# Altium schematic symbol library MCU_ST_STM32H5.SchLib: 73 symbols (part 1 of 3)
Pins are listed as number, name and electrical type; pins without a type are passive.

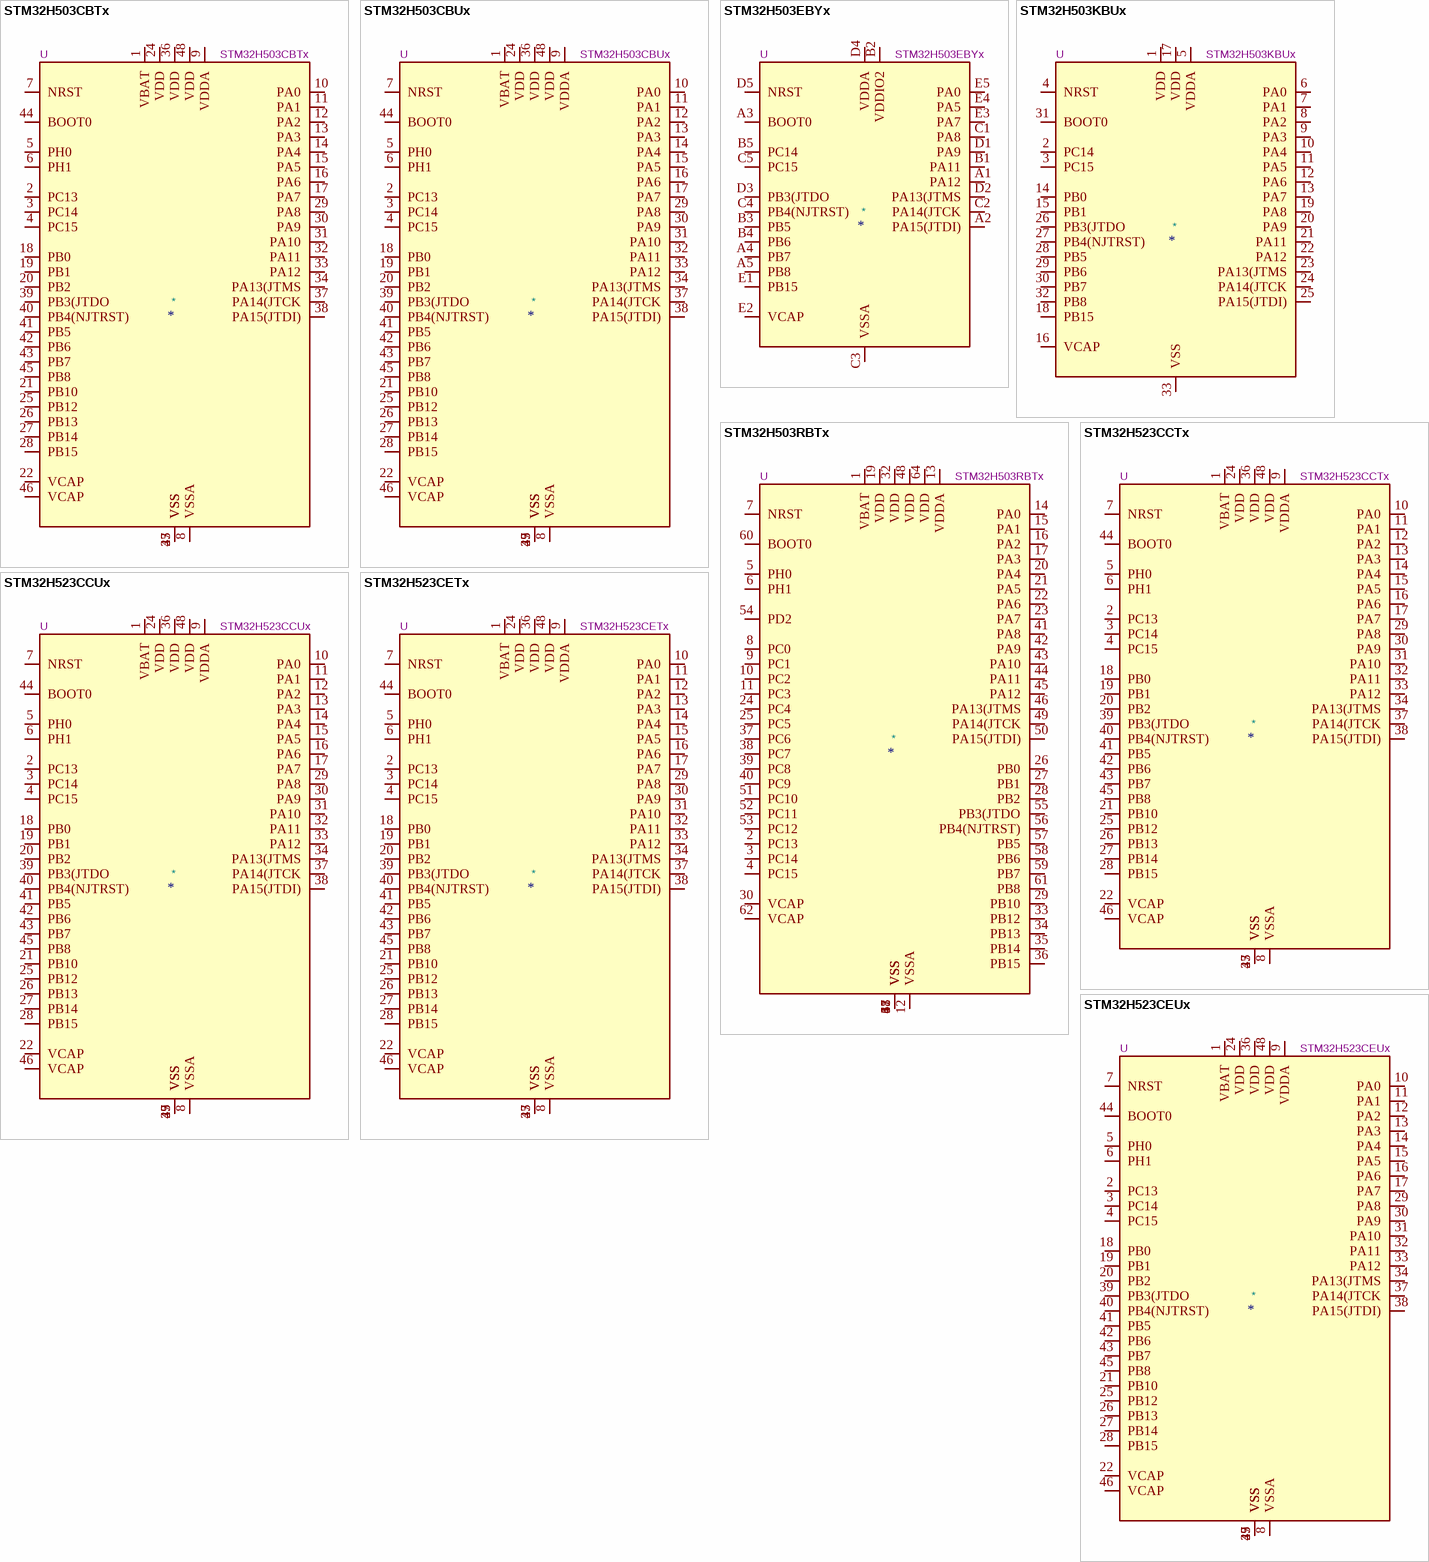
[diagram p0: symbols STM32H503CBTx to STM32H523CEUx]

## STM32H503CBTx
designator *  value STM32H503CBTx  Reference: U
STMicroelectronics Arm Cortex-M33 MCU, 128KB flash, 32KB RAM, 250 MHz, 35 GPIO, LQFP48; ki_keywords: Arm Cortex-M33 STM32H5 STM32H503; ki_fp_filters: LQFP*7x7mm*P0.5mm*; Footprint: Package_QFP:LQFP-48_7x7mm_P0.5mm; Datasheet: https://www.st.com/resource/en/datasheet/stm32h503cb.pdf; Description_: STMicroelectronics Arm Cortex-M33 MCU, 128KB flash, 32KB RAM, 250 MHz, 35 GPIO, LQFP48
pins: 1 VBAT, 2 PC13, 3 PC14, 4 PC15, 5 PH0, 6 PH1, 7 NRST, 8 VSSA, 9 VDDA, 10 PA0, 11 PA1, 12 PA2, 13 PA3, 14 PA4, 15 PA5, 16 PA6, 17 PA7, 18 PB0, 19 PB1, 20 PB2, 21 PB10, 22 VCAP, 23 VSS, 24 VDD, 25 PB12, 26 PB13, 27 PB14, 28 PB15, 29 PA8, 30 PA9, 31 PA10, 32 PA11, 33 PA12, 34 PA13(JTMS, 35 VSS, 36 VDD, 37 PA14(JTCK, 38 PA15(JTDI), 39 PB3(JTDO, 40 PB4(NJTRST), 41 PB5, 42 PB6, 43 PB7, 44 BOOT0, 45 PB8, 46 VCAP, 47 VSS, 48 VDD

## STM32H503CBUx
designator *  value STM32H503CBUx  Reference: U
STMicroelectronics Arm Cortex-M33 MCU, 128KB flash, 32KB RAM, 250 MHz, 35 GPIO, UFQFPN48; ki_keywords: Arm Cortex-M33 STM32H5 STM32H503; ki_fp_filters: QFN*1EP*7x7mm*P0.5mm*; Footprint: Package_DFN_QFN:QFN-48-1EP_7x7mm_P0.5mm_EP5.6x5.6mm; Datasheet: https://www.st.com/resource/en/datasheet/stm32h503cb.pdf; Description_: STMicroelectronics Arm Cortex-M33 MCU, 128KB flash, 32KB RAM, 250 MHz, 35 GPIO, UFQFPN48
pins: 1 VBAT, 2 PC13, 3 PC14, 4 PC15, 5 PH0, 6 PH1, 7 NRST, 8 VSSA, 9 VDDA, 10 PA0, 11 PA1, 12 PA2, 13 PA3, 14 PA4, 15 PA5, 16 PA6, 17 PA7, 18 PB0, 19 PB1, 20 PB2, 21 PB10, 22 VCAP, 23 VSS, 24 VDD, 25 PB12, 26 PB13, 27 PB14, 28 PB15, 29 PA8, 30 PA9, 31 PA10, 32 PA11, 33 PA12, 34 PA13(JTMS, 35 VSS, 36 VDD, 37 PA14(JTCK, 38 PA15(JTDI), 39 PB3(JTDO, 40 PB4(NJTRST), 41 PB5, 42 PB6, 43 PB7, 44 BOOT0, 45 PB8, 46 VCAP, 47 VSS, 48 VDD, 49 VSS

## STM32H503EBYx
designator *  value STM32H503EBYx  Reference: U
STMicroelectronics Arm Cortex-M33 MCU, 128KB flash, 32KB RAM, 250 MHz, 19 GPIO, WLCSP25; ki_keywords: Arm Cortex-M33 STM32H5 STM32H503; ki_fp_filters: ST*WLCSP*2.33x2.24mm*Layout5x5*P0.4mm*; Footprint: Package_CSP:ST_WLCSP-25_2.33x2.24mm_Layout5x5_P0.4mm; Datasheet: https://www.st.com/resource/en/datasheet/stm32h503eb.pdf; Description_: STMicroelectronics Arm Cortex-M33 MCU, 128KB flash, 32KB RAM, 250 MHz, 19 GPIO, WLCSP25
pins: A1 PA12, A2 PA15(JTDI), A3 BOOT0, A4 PB7, A5 PB8, B1 PA11, B2 VDDIO2, B3 PB5, B4 PB6, B5 PC14, C1 PA8, C2 PA14(JTCK, C3 VSSA, C4 PB4(NJTRST), C5 PC15, D1 PA9, D2 PA13(JTMS, D3 PB3(JTDO, D4 VDDA, D5 NRST, E1 PB15, E2 VCAP, E3 PA7, E4 PA5, E5 PA0

## STM32H503KBUx
designator *  value STM32H503KBUx  Reference: U
STMicroelectronics Arm Cortex-M33 MCU, 128KB flash, 32KB RAM, 250 MHz, 26 GPIO, UFQFPN32; ki_keywords: Arm Cortex-M33 STM32H5 STM32H503; ki_fp_filters: QFN*1EP*5x5mm*P0.5mm*; Footprint: Package_DFN_QFN:QFN-32-1EP_5x5mm_P0.5mm_EP3.45x3.45mm; Datasheet: https://www.st.com/resource/en/datasheet/stm32h503kb.pdf; Description_: STMicroelectronics Arm Cortex-M33 MCU, 128KB flash, 32KB RAM, 250 MHz, 26 GPIO, UFQFPN32
pins: 1 VDD, 2 PC14, 3 PC15, 4 NRST, 5 VDDA, 6 PA0, 7 PA1, 8 PA2, 9 PA3, 10 PA4, 11 PA5, 12 PA6, 13 PA7, 14 PB0, 15 PB1, 16 VCAP, 17 VDD, 18 PB15, 19 PA8, 20 PA9, 21 PA11, 22 PA12, 23 PA13(JTMS, 24 PA14(JTCK, 25 PA15(JTDI), 26 PB3(JTDO, 27 PB4(NJTRST), 28 PB5, 29 PB6, 30 PB7, 31 BOOT0, 32 PB8, 33 VSS

## STM32H503RBTx
designator *  value STM32H503RBTx  Reference: U
STMicroelectronics Arm Cortex-M33 MCU, 128KB flash, 32KB RAM, 250 MHz, 49 GPIO, LQFP64; ki_keywords: Arm Cortex-M33 STM32H5 STM32H503; ki_fp_filters: LQFP*10x10mm*P0.5mm*; Footprint: Package_QFP:LQFP-64_10x10mm_P0.5mm; Datasheet: https://www.st.com/resource/en/datasheet/stm32h503rb.pdf; Description_: STMicroelectronics Arm Cortex-M33 MCU, 128KB flash, 32KB RAM, 250 MHz, 49 GPIO, LQFP64
pins: 1 VBAT, 2 PC13, 3 PC14, 4 PC15, 5 PH0, 6 PH1, 7 NRST, 8 PC0, 9 PC1, 10 PC2, 11 PC3, 12 VSSA, 13 VDDA, 14 PA0, 15 PA1, 16 PA2, 17 PA3, 18 VSS, 19 VDD, 20 PA4, 21 PA5, 22 PA6, 23 PA7, 24 PC4, 25 PC5, 26 PB0, 27 PB1, 28 PB2, 29 PB10, 30 VCAP, 31 VSS, 32 VDD, 33 PB12, 34 PB13, 35 PB14, 36 PB15, 37 PC6, 38 PC7, 39 PC8, 40 PC9, 41 PA8, 42 PA9, 43 PA10, 44 PA11, 45 PA12, 46 PA13(JTMS, 47 VSS, 48 VDD, 49 PA14(JTCK, 50 PA15(JTDI), 51 PC10, 52 PC11, 53 PC12, 54 PD2, 55 PB3(JTDO, 56 PB4(NJTRST), 57 PB5, 58 PB6, 59 PB7, 60 BOOT0, 61 PB8, 62 VCAP, 63 VSS, 64 VDD

## STM32H523CCTx
designator *  value STM32H523CCTx  Reference: U
STMicroelectronics Arm Cortex-M33 MCU, 256KB flash, 272KB RAM, 35 GPIO, LQFP48; ki_keywords: Arm Cortex-M33 STM32H5 STM32H5x3; ki_fp_filters: LQFP*7x7mm*P0.5mm*; Footprint: Package_QFP:LQFP-48_7x7mm_P0.5mm; Datasheet: https://www.st.com/resource/en/datasheet/stm32h523cc.pdf; Description_: STMicroelectronics Arm Cortex-M33 MCU, 256KB flash, 272KB RAM, 35 GPIO, LQFP48
pins: 1 VBAT, 2 PC13, 3 PC14, 4 PC15, 5 PH0, 6 PH1, 7 NRST, 8 VSSA, 9 VDDA, 10 PA0, 11 PA1, 12 PA2, 13 PA3, 14 PA4, 15 PA5, 16 PA6, 17 PA7, 18 PB0, 19 PB1, 20 PB2, 21 PB10, 22 VCAP, 23 VSS, 24 VDD, 25 PB12, 26 PB13, 27 PB14, 28 PB15, 29 PA8, 30 PA9, 31 PA10, 32 PA11, 33 PA12, 34 PA13(JTMS, 35 VSS, 36 VDD, 37 PA14(JTCK, 38 PA15(JTDI), 39 PB3(JTDO, 40 PB4(NJTRST), 41 PB5, 42 PB6, 43 PB7, 44 BOOT0, 45 PB8, 46 VCAP, 47 VSS, 48 VDD

## STM32H523CCUx
designator *  value STM32H523CCUx  Reference: U
STMicroelectronics Arm Cortex-M33 MCU, 256KB flash, 272KB RAM, 35 GPIO, UFQFPN48; ki_keywords: Arm Cortex-M33 STM32H5 STM32H5x3; ki_fp_filters: QFN*1EP*7x7mm*P0.5mm*; Footprint: Package_DFN_QFN:QFN-48-1EP_7x7mm_P0.5mm_EP5.6x5.6mm; Datasheet: https://www.st.com/resource/en/datasheet/stm32h523cc.pdf; Description_: STMicroelectronics Arm Cortex-M33 MCU, 256KB flash, 272KB RAM, 35 GPIO, UFQFPN48
pins: 1 VBAT, 2 PC13, 3 PC14, 4 PC15, 5 PH0, 6 PH1, 7 NRST, 8 VSSA, 9 VDDA, 10 PA0, 11 PA1, 12 PA2, 13 PA3, 14 PA4, 15 PA5, 16 PA6, 17 PA7, 18 PB0, 19 PB1, 20 PB2, 21 PB10, 22 VCAP, 23 VSS, 24 VDD, 25 PB12, 26 PB13, 27 PB14, 28 PB15, 29 PA8, 30 PA9, 31 PA10, 32 PA11, 33 PA12, 34 PA13(JTMS, 35 VSS, 36 VDD, 37 PA14(JTCK, 38 PA15(JTDI), 39 PB3(JTDO, 40 PB4(NJTRST), 41 PB5, 42 PB6, 43 PB7, 44 BOOT0, 45 PB8, 46 VCAP, 47 VSS, 48 VDD, 49 VSS

## STM32H523CETx
designator *  value STM32H523CETx  Reference: U
STMicroelectronics Arm Cortex-M33 MCU, 512KB flash, 272KB RAM, 35 GPIO, LQFP48; ki_keywords: Arm Cortex-M33 STM32H5 STM32H5x3; ki_fp_filters: LQFP*7x7mm*P0.5mm*; Footprint: Package_QFP:LQFP-48_7x7mm_P0.5mm; Datasheet: https://www.st.com/resource/en/datasheet/stm32h523ce.pdf; Description_: STMicroelectronics Arm Cortex-M33 MCU, 512KB flash, 272KB RAM, 35 GPIO, LQFP48
pins: 1 VBAT, 2 PC13, 3 PC14, 4 PC15, 5 PH0, 6 PH1, 7 NRST, 8 VSSA, 9 VDDA, 10 PA0, 11 PA1, 12 PA2, 13 PA3, 14 PA4, 15 PA5, 16 PA6, 17 PA7, 18 PB0, 19 PB1, 20 PB2, 21 PB10, 22 VCAP, 23 VSS, 24 VDD, 25 PB12, 26 PB13, 27 PB14, 28 PB15, 29 PA8, 30 PA9, 31 PA10, 32 PA11, 33 PA12, 34 PA13(JTMS, 35 VSS, 36 VDD, 37 PA14(JTCK, 38 PA15(JTDI), 39 PB3(JTDO, 40 PB4(NJTRST), 41 PB5, 42 PB6, 43 PB7, 44 BOOT0, 45 PB8, 46 VCAP, 47 VSS, 48 VDD

## STM32H523CEUx
designator *  value STM32H523CEUx  Reference: U
STMicroelectronics Arm Cortex-M33 MCU, 512KB flash, 272KB RAM, 35 GPIO, UFQFPN48; ki_keywords: Arm Cortex-M33 STM32H5 STM32H5x3; ki_fp_filters: QFN*1EP*7x7mm*P0.5mm*; Footprint: Package_DFN_QFN:QFN-48-1EP_7x7mm_P0.5mm_EP5.6x5.6mm; Datasheet: https://www.st.com/resource/en/datasheet/stm32h523ce.pdf; Description_: STMicroelectronics Arm Cortex-M33 MCU, 512KB flash, 272KB RAM, 35 GPIO, UFQFPN48
pins: 1 VBAT, 2 PC13, 3 PC14, 4 PC15, 5 PH0, 6 PH1, 7 NRST, 8 VSSA, 9 VDDA, 10 PA0, 11 PA1, 12 PA2, 13 PA3, 14 PA4, 15 PA5, 16 PA6, 17 PA7, 18 PB0, 19 PB1, 20 PB2, 21 PB10, 22 VCAP, 23 VSS, 24 VDD, 25 PB12, 26 PB13, 27 PB14, 28 PB15, 29 PA8, 30 PA9, 31 PA10, 32 PA11, 33 PA12, 34 PA13(JTMS, 35 VSS, 36 VDD, 37 PA14(JTCK, 38 PA15(JTDI), 39 PB3(JTDO, 40 PB4(NJTRST), 41 PB5, 42 PB6, 43 PB7, 44 BOOT0, 45 PB8, 46 VCAP, 47 VSS, 48 VDD, 49 VSS

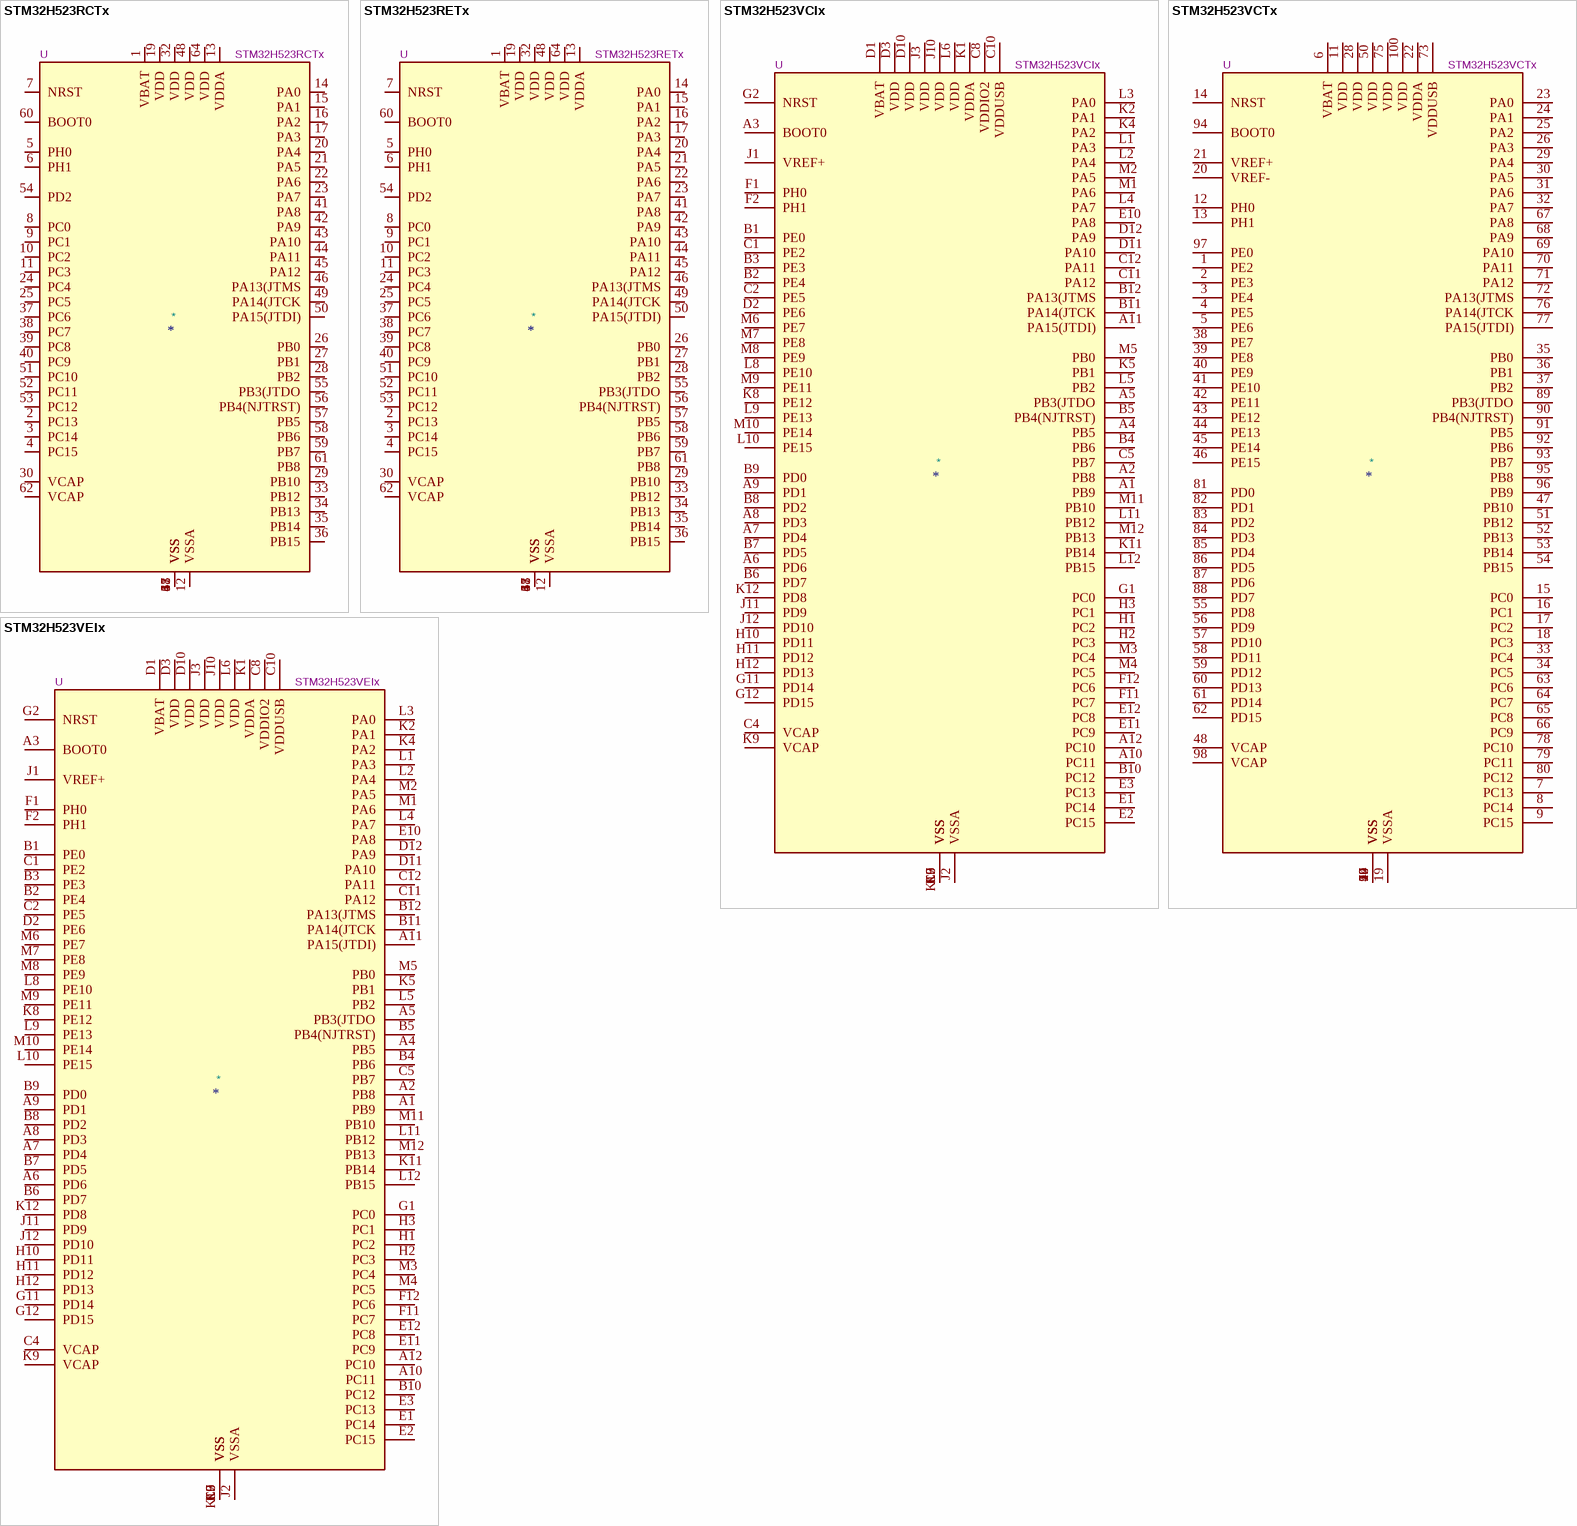
[diagram p1: symbols STM32H523RCTx to STM32H523VEIx]

## STM32H523RCTx
designator *  value STM32H523RCTx  Reference: U
STMicroelectronics Arm Cortex-M33 MCU, 256KB flash, 272KB RAM, 49 GPIO, LQFP64; ki_keywords: Arm Cortex-M33 STM32H5 STM32H5x3; ki_fp_filters: LQFP*10x10mm*P0.5mm*; Footprint: Package_QFP:LQFP-64_10x10mm_P0.5mm; Datasheet: https://www.st.com/resource/en/datasheet/stm32h523rc.pdf; Description_: STMicroelectronics Arm Cortex-M33 MCU, 256KB flash, 272KB RAM, 49 GPIO, LQFP64
pins: 1 VBAT, 2 PC13, 3 PC14, 4 PC15, 5 PH0, 6 PH1, 7 NRST, 8 PC0, 9 PC1, 10 PC2, 11 PC3, 12 VSSA, 13 VDDA, 14 PA0, 15 PA1, 16 PA2, 17 PA3, 18 VSS, 19 VDD, 20 PA4, 21 PA5, 22 PA6, 23 PA7, 24 PC4, 25 PC5, 26 PB0, 27 PB1, 28 PB2, 29 PB10, 30 VCAP, 31 VSS, 32 VDD, 33 PB12, 34 PB13, 35 PB14, 36 PB15, 37 PC6, 38 PC7, 39 PC8, 40 PC9, 41 PA8, 42 PA9, 43 PA10, 44 PA11, 45 PA12, 46 PA13(JTMS, 47 VSS, 48 VDD, 49 PA14(JTCK, 50 PA15(JTDI), 51 PC10, 52 PC11, 53 PC12, 54 PD2, 55 PB3(JTDO, 56 PB4(NJTRST), 57 PB5, 58 PB6, 59 PB7, 60 BOOT0, 61 PB8, 62 VCAP, 63 VSS, 64 VDD

## STM32H523RETx
designator *  value STM32H523RETx  Reference: U
STMicroelectronics Arm Cortex-M33 MCU, 512KB flash, 272KB RAM, 49 GPIO, LQFP64; ki_keywords: Arm Cortex-M33 STM32H5 STM32H5x3; ki_fp_filters: LQFP*10x10mm*P0.5mm*; Footprint: Package_QFP:LQFP-64_10x10mm_P0.5mm; Datasheet: https://www.st.com/resource/en/datasheet/stm32h523re.pdf; Description_: STMicroelectronics Arm Cortex-M33 MCU, 512KB flash, 272KB RAM, 49 GPIO, LQFP64
pins: 1 VBAT, 2 PC13, 3 PC14, 4 PC15, 5 PH0, 6 PH1, 7 NRST, 8 PC0, 9 PC1, 10 PC2, 11 PC3, 12 VSSA, 13 VDDA, 14 PA0, 15 PA1, 16 PA2, 17 PA3, 18 VSS, 19 VDD, 20 PA4, 21 PA5, 22 PA6, 23 PA7, 24 PC4, 25 PC5, 26 PB0, 27 PB1, 28 PB2, 29 PB10, 30 VCAP, 31 VSS, 32 VDD, 33 PB12, 34 PB13, 35 PB14, 36 PB15, 37 PC6, 38 PC7, 39 PC8, 40 PC9, 41 PA8, 42 PA9, 43 PA10, 44 PA11, 45 PA12, 46 PA13(JTMS, 47 VSS, 48 VDD, 49 PA14(JTCK, 50 PA15(JTDI), 51 PC10, 52 PC11, 53 PC12, 54 PD2, 55 PB3(JTDO, 56 PB4(NJTRST), 57 PB5, 58 PB6, 59 PB7, 60 BOOT0, 61 PB8, 62 VCAP, 63 VSS, 64 VDD

## STM32H523VCIx
designator *  value STM32H523VCIx  Reference: U
STMicroelectronics Arm Cortex-M33 MCU, 256KB flash, 272KB RAM, 80 GPIO, UFBGA100; ki_keywords: Arm Cortex-M33 STM32H5 STM32H5x3; ki_fp_filters: UFBGA*7x7mm*Layout12x12*P0.5mm*; Footprint: Package_BGA:UFBGA-100_7x7mm_Layout12x12_P0.5mm; Datasheet: https://www.st.com/resource/en/datasheet/stm32h523vc.pdf; Description_: STMicroelectronics Arm Cortex-M33 MCU, 256KB flash, 272KB RAM, 80 GPIO, UFBGA100
pins: A1 PB9, A2 PB8, A3 BOOT0, A4 PB5, A5 PB3(JTDO, A6 PD6, A7 PD4, A8 PD3, A9 PD1, A10 PC11, A11 PA15(JTDI), A12 PC10, B1 PE0, B2 PE4, B3 PE3, B4 PB6, B5 PB4(NJTRST), B6 PD7, B7 PD5, B8 PD2, B9 PD0, B10 PC12, B11 PA14(JTCK, B12 PA13(JTMS, C1 PE2, C2 PE5, C3 VSS, C4 VCAP, C5 PB7, C8 VDDIO2, C9 VSS, C10 VDDUSB, C11 PA12, C12 PA11, D1 VBAT, D2 PE6, D3 VDD, D10 VDD, D11 PA10, D12 PA9, E1 PC14, E2 PC15, E3 PC13, E10 PA8, E11 PC9, E12 PC8, F1 PH0, F2 PH1, F11 PC7, F12 PC6, G1 PC0, G2 NRST, G11 PD14, G12 PD15, H1 PC2, H2 PC3, H3 PC1, H10 PD11, H11 PD12, H12 PD13, J1 VREF+, J2 VSSA, J3 VDD, J10 VDD, J11 PD9, J12 PD10, K1 VDDA, K2 PA1, K3 VSS, K4 PA2, K5 PB1, K8 PE12, K9 VCAP, K10 VSS, K11 PB14, K12 PD8, L1 PA3, L2 PA4, L3 PA0, L4 PA7, L5 PB2, L6 VDD, L7 VSS, L8 PE10, L9 PE13, L10 PE15, L11 PB12, L12 PB15, M1 PA6, M2 PA5, M3 PC4, M4 PC5, M5 PB0, M6 PE7, M7 PE8, M8 PE9, M9 PE11, M10 PE14, M11 PB10, M12 PB13

## STM32H523VCTx
designator *  value STM32H523VCTx  Reference: U
STMicroelectronics Arm Cortex-M33 MCU, 256KB flash, 272KB RAM, 80 GPIO, LQFP100; ki_keywords: Arm Cortex-M33 STM32H5 STM32H5x3; ki_fp_filters: LQFP*14x14mm*P0.5mm*; Footprint: Package_QFP:LQFP-100_14x14mm_P0.5mm; Datasheet: https://www.st.com/resource/en/datasheet/stm32h523vc.pdf; Description_: STMicroelectronics Arm Cortex-M33 MCU, 256KB flash, 272KB RAM, 80 GPIO, LQFP100
pins: 1 PE2, 2 PE3, 3 PE4, 4 PE5, 5 PE6, 6 VBAT, 7 PC13, 8 PC14, 9 PC15, 10 VSS, 11 VDD, 12 PH0, 13 PH1, 14 NRST, 15 PC0, 16 PC1, 17 PC2, 18 PC3, 19 VSSA, 20 VREF-, 21 VREF+, 22 VDDA, 23 PA0, 24 PA1, 25 PA2, 26 PA3, 27 VSS, 28 VDD, 29 PA4, 30 PA5, 31 PA6, 32 PA7, 33 PC4, 34 PC5, 35 PB0, 36 PB1, 37 PB2, 38 PE7, 39 PE8, 40 PE9, 41 PE10, 42 PE11, 43 PE12, 44 PE13, 45 PE14, 46 PE15, 47 PB10, 48 VCAP, 49 VSS, 50 VDD, 51 PB12, 52 PB13, 53 PB14, 54 PB15, 55 PD8, 56 PD9, 57 PD10, 58 PD11, 59 PD12, 60 PD13, 61 PD14, 62 PD15, 63 PC6, 64 PC7, 65 PC8, 66 PC9, 67 PA8, 68 PA9, 69 PA10, 70 PA11, 71 PA12, 72 PA13(JTMS, 73 VDDUSB, 74 VSS, 75 VDD, 76 PA14(JTCK, 77 PA15(JTDI), 78 PC10, 79 PC11, 80 PC12, 81 PD0, 82 PD1, 83 PD2, 84 PD3, 85 PD4, 86 PD5, 87 PD6, 88 PD7, 89 PB3(JTDO, 90 PB4(NJTRST), 91 PB5, 92 PB6, 93 PB7, 94 BOOT0, 95 PB8, 96 PB9, 97 PE0, 98 VCAP, 99 VSS, 100 VDD

## STM32H523VEIx
designator *  value STM32H523VEIx  Reference: U
STMicroelectronics Arm Cortex-M33 MCU, 512KB flash, 272KB RAM, 80 GPIO, UFBGA100; ki_keywords: Arm Cortex-M33 STM32H5 STM32H5x3; ki_fp_filters: UFBGA*7x7mm*Layout12x12*P0.5mm*; Footprint: Package_BGA:UFBGA-100_7x7mm_Layout12x12_P0.5mm; Datasheet: https://www.st.com/resource/en/datasheet/stm32h523ve.pdf; Description_: STMicroelectronics Arm Cortex-M33 MCU, 512KB flash, 272KB RAM, 80 GPIO, UFBGA100
pins: A1 PB9, A2 PB8, A3 BOOT0, A4 PB5, A5 PB3(JTDO, A6 PD6, A7 PD4, A8 PD3, A9 PD1, A10 PC11, A11 PA15(JTDI), A12 PC10, B1 PE0, B2 PE4, B3 PE3, B4 PB6, B5 PB4(NJTRST), B6 PD7, B7 PD5, B8 PD2, B9 PD0, B10 PC12, B11 PA14(JTCK, B12 PA13(JTMS, C1 PE2, C2 PE5, C3 VSS, C4 VCAP, C5 PB7, C8 VDDIO2, C9 VSS, C10 VDDUSB, C11 PA12, C12 PA11, D1 VBAT, D2 PE6, D3 VDD, D10 VDD, D11 PA10, D12 PA9, E1 PC14, E2 PC15, E3 PC13, E10 PA8, E11 PC9, E12 PC8, F1 PH0, F2 PH1, F11 PC7, F12 PC6, G1 PC0, G2 NRST, G11 PD14, G12 PD15, H1 PC2, H2 PC3, H3 PC1, H10 PD11, H11 PD12, H12 PD13, J1 VREF+, J2 VSSA, J3 VDD, J10 VDD, J11 PD9, J12 PD10, K1 VDDA, K2 PA1, K3 VSS, K4 PA2, K5 PB1, K8 PE12, K9 VCAP, K10 VSS, K11 PB14, K12 PD8, L1 PA3, L2 PA4, L3 PA0, L4 PA7, L5 PB2, L6 VDD, L7 VSS, L8 PE10, L9 PE13, L10 PE15, L11 PB12, L12 PB15, M1 PA6, M2 PA5, M3 PC4, M4 PC5, M5 PB0, M6 PE7, M7 PE8, M8 PE9, M9 PE11, M10 PE14, M11 PB10, M12 PB13

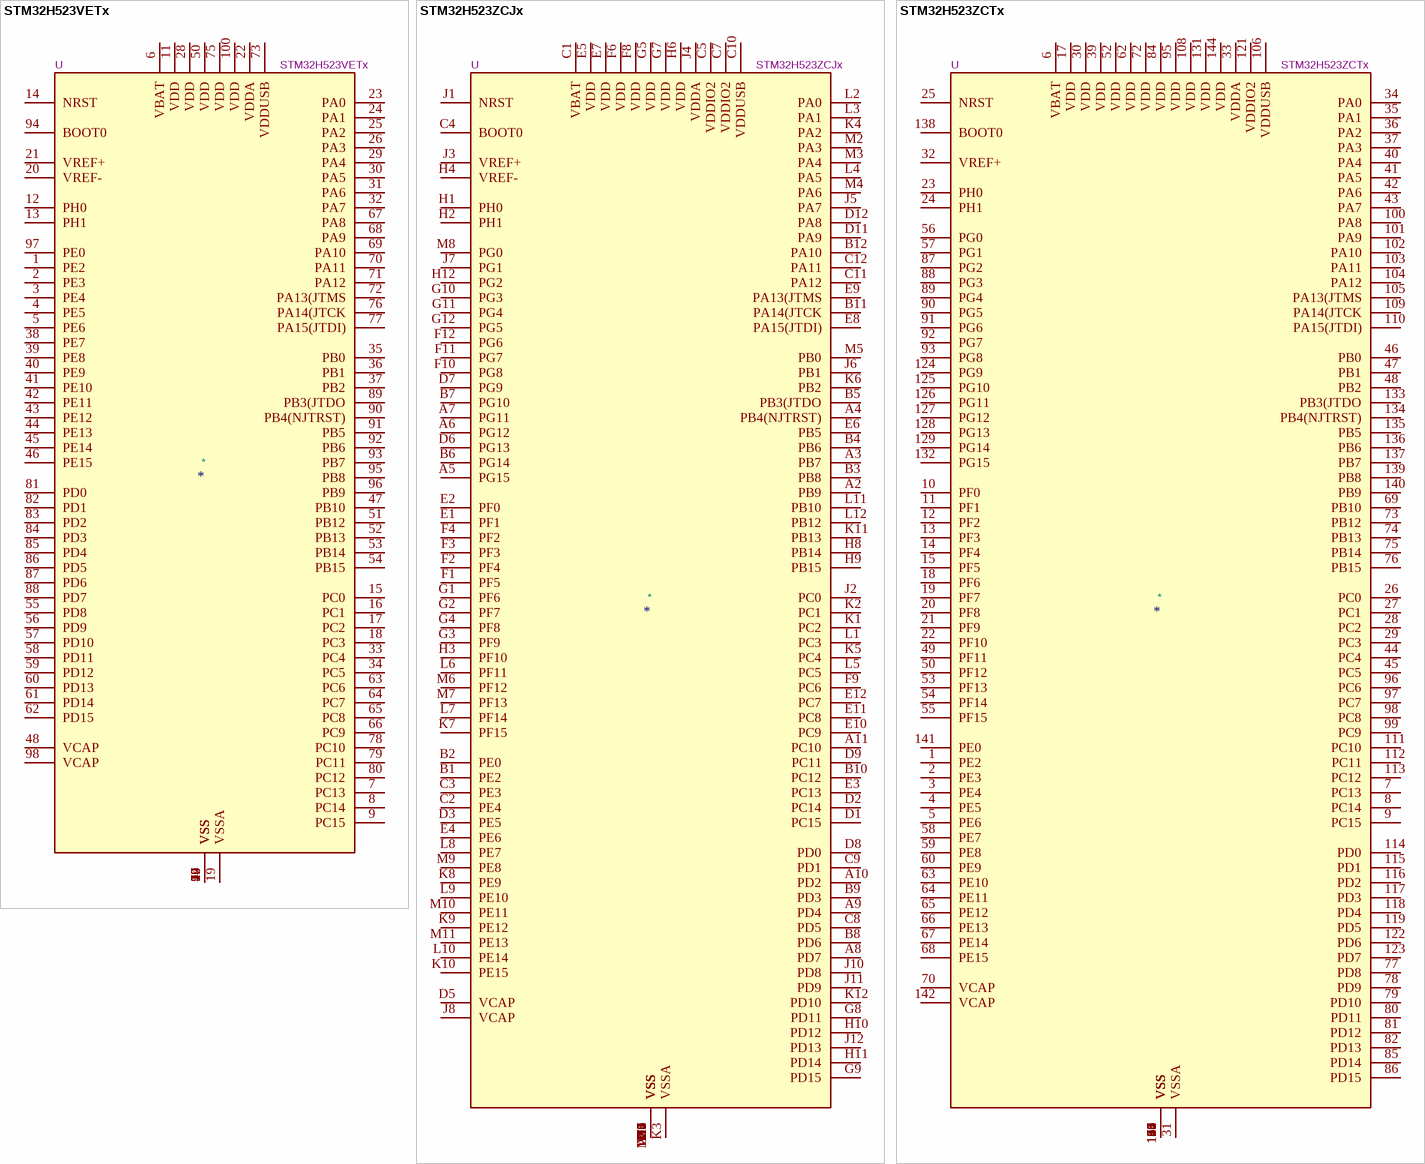
[diagram p2: symbols STM32H523VETx to STM32H523ZCTx]

## STM32H523VETx
designator *  value STM32H523VETx  Reference: U
STMicroelectronics Arm Cortex-M33 MCU, 512KB flash, 272KB RAM, 80 GPIO, LQFP100; ki_keywords: Arm Cortex-M33 STM32H5 STM32H5x3; ki_fp_filters: LQFP*14x14mm*P0.5mm*; Footprint: Package_QFP:LQFP-100_14x14mm_P0.5mm; Datasheet: https://www.st.com/resource/en/datasheet/stm32h523ve.pdf; Description_: STMicroelectronics Arm Cortex-M33 MCU, 512KB flash, 272KB RAM, 80 GPIO, LQFP100
pins: 1 PE2, 2 PE3, 3 PE4, 4 PE5, 5 PE6, 6 VBAT, 7 PC13, 8 PC14, 9 PC15, 10 VSS, 11 VDD, 12 PH0, 13 PH1, 14 NRST, 15 PC0, 16 PC1, 17 PC2, 18 PC3, 19 VSSA, 20 VREF-, 21 VREF+, 22 VDDA, 23 PA0, 24 PA1, 25 PA2, 26 PA3, 27 VSS, 28 VDD, 29 PA4, 30 PA5, 31 PA6, 32 PA7, 33 PC4, 34 PC5, 35 PB0, 36 PB1, 37 PB2, 38 PE7, 39 PE8, 40 PE9, 41 PE10, 42 PE11, 43 PE12, 44 PE13, 45 PE14, 46 PE15, 47 PB10, 48 VCAP, 49 VSS, 50 VDD, 51 PB12, 52 PB13, 53 PB14, 54 PB15, 55 PD8, 56 PD9, 57 PD10, 58 PD11, 59 PD12, 60 PD13, 61 PD14, 62 PD15, 63 PC6, 64 PC7, 65 PC8, 66 PC9, 67 PA8, 68 PA9, 69 PA10, 70 PA11, 71 PA12, 72 PA13(JTMS, 73 VDDUSB, 74 VSS, 75 VDD, 76 PA14(JTCK, 77 PA15(JTDI), 78 PC10, 79 PC11, 80 PC12, 81 PD0, 82 PD1, 83 PD2, 84 PD3, 85 PD4, 86 PD5, 87 PD6, 88 PD7, 89 PB3(JTDO, 90 PB4(NJTRST), 91 PB5, 92 PB6, 93 PB7, 94 BOOT0, 95 PB8, 96 PB9, 97 PE0, 98 VCAP, 99 VSS, 100 VDD

## STM32H523ZCJx
designator *  value STM32H523ZCJx  Reference: U
STMicroelectronics Arm Cortex-M33 MCU, 256KB flash, 272KB RAM, 112 GPIO, UFBGA144; ki_keywords: Arm Cortex-M33 STM32H5 STM32H5x3; ki_fp_filters: UFBGA*10x10mm*Layout12x12*P0.8mm*; Footprint: Package_BGA:UFBGA-144_10x10mm_Layout12x12_P0.8mm; Datasheet: https://www.st.com/resource/en/datasheet/stm32h523zc.pdf; Description_: STMicroelectronics Arm Cortex-M33 MCU, 256KB flash, 272KB RAM, 112 GPIO, UFBGA144
pins: A1 VSS, A2 PB9, A3 PB7, A4 PB4(NJTRST), A5 PG15, A6 PG12, A7 PG11, A8 PD7, A9 PD4, A10 PD2, A11 PC10, A12 VSS, B1 PE2, B2 PE0, B3 PB8, B4 PB6, B5 PB3(JTDO, B6 PG14, B7 PG10, B8 PD6, B9 PD3, B10 PC12, B11 PA14(JTCK, B12 PA10, C1 VBAT, C2 PE4, C3 PE3, C4 BOOT0, C5 VDDIO2, C6 VSS, C7 VDDIO2, C8 PD5, C9 PD1, C10 VDDUSB, C11 PA12, C12 PA11, D1 PC15, D2 PC14, D3 PE5, D4 VSS, D5 VCAP, D6 PG13, D7 PG9, D8 PD0, D9 PC11, D10 VSS, D11 PA9, D12 PA8, E1 PF1, E2 PF0, E3 PC13, E4 PE6, E5 VDD, E6 PB5, E7 VDD, E8 PA15(JTDI), E9 PA13(JTMS, E10 PC9, E11 PC8, E12 PC7, F1 PF5, F2 PF4, F3 PF3, F4 PF2, F5 VSS, F6 VDD, F7 VSS, F8 VDD, F9 PC6, F10 PG8, F11 PG7, F12 PG6, G1 PF6, G2 PF7, G3 PF9, G4 PF8, G5 VDD, G6 VSS, G7 VDD, G8 PD11, G9 PD15, G10 PG3, G11 PG4, G12 PG5, H1 PH0, H2 PH1, H3 PF10, H4 VREF-, H5 VSS, H6 VDD, H7 VSS, H8 PB14, H9 PB15, H10 PD12, H11 PD14, H12 PG2, J1 NRST, J2 PC0, J3 VREF+, J4 VDDA, J5 PA7, J6 PB1, J7 PG1, J8 VCAP, J9 VSS, J10 PD8, J11 PD9, J12 PD13, K1 PC2, K2 PC1, K3 VSSA, K4 PA2, K5 PC4, K6 PB2, K7 PF15, K8 PE9, K9 PE12, K10 PE15, K11 PB13, K12 PD10, L1 PC3, L2 PA0, L3 PA1, L4 PA5, L5 PC5, L6 PF11, L7 PF14, L8 PE7, L9 PE10, L10 PE14, L11 PB10, L12 PB12, M1 VSS, M2 PA3, M3 PA4, M4 PA6, M5 PB0, M6 PF12, M7 PF13, M8 PG0, M9 PE8, M10 PE11, M11 PE13, M12 VSS

## STM32H523ZCTx
designator *  value STM32H523ZCTx  Reference: U
STMicroelectronics Arm Cortex-M33 MCU, 256KB flash, 272KB RAM, 112 GPIO, LQFP144; ki_keywords: Arm Cortex-M33 STM32H5 STM32H5x3; ki_fp_filters: LQFP*20x20mm*P0.5mm*; Footprint: Package_QFP:LQFP-144_20x20mm_P0.5mm; Datasheet: https://www.st.com/resource/en/datasheet/stm32h523zc.pdf; Description_: STMicroelectronics Arm Cortex-M33 MCU, 256KB flash, 272KB RAM, 112 GPIO, LQFP144
pins: 1 PE2, 2 PE3, 3 PE4, 4 PE5, 5 PE6, 6 VBAT, 7 PC13, 8 PC14, 9 PC15, 10 PF0, 11 PF1, 12 PF2, 13 PF3, 14 PF4, 15 PF5, 16 VSS, 17 VDD, 18 PF6, 19 PF7, 20 PF8, 21 PF9, 22 PF10, 23 PH0, 24 PH1, 25 NRST, 26 PC0, 27 PC1, 28 PC2, 29 PC3, 30 VDD, 31 VSSA, 32 VREF+, 33 VDDA, 34 PA0, 35 PA1, 36 PA2, 37 PA3, 38 VSS, 39 VDD, 40 PA4, 41 PA5, 42 PA6, 43 PA7, 44 PC4, 45 PC5, 46 PB0, 47 PB1, 48 PB2, 49 PF11, 50 PF12, 51 VSS, 52 VDD, 53 PF13, 54 PF14, 55 PF15, 56 PG0, 57 PG1, 58 PE7, 59 PE8, 60 PE9, 61 VSS, 62 VDD, 63 PE10, 64 PE11, 65 PE12, 66 PE13, 67 PE14, 68 PE15, 69 PB10, 70 VCAP, 71 VSS, 72 VDD, 73 PB12, 74 PB13, 75 PB14, 76 PB15, 77 PD8, 78 PD9, 79 PD10, 80 PD11, 81 PD12, 82 PD13, 83 VSS, 84 VDD, 85 PD14, 86 PD15, 87 PG2, 88 PG3, 89 PG4, 90 PG5, 91 PG6, 92 PG7, 93 PG8, 94 VSS, 95 VDD, 96 PC6, 97 PC7, 98 PC8, 99 PC9, 100 PA8, 101 PA9, 102 PA10, 103 PA11, 104 PA12, 105 PA13(JTMS, 106 VDDUSB, 107 VSS, 108 VDD, 109 PA14(JTCK, 110 PA15(JTDI), 111 PC10, 112 PC11, 113 PC12, 114 PD0, 115 PD1, 116 PD2, 117 PD3, 118 PD4, 119 PD5, 120 VSS, 121 VDDIO2, 122 PD6, 123 PD7, 124 PG9, 125 PG10, 126 PG11, 127 PG12, 128 PG13, 129 PG14, 130 VSS, 131 VDD, 132 PG15, 133 PB3(JTDO, 134 PB4(NJTRST), 135 PB5, 136 PB6, 137 PB7, 138 BOOT0, 139 PB8, 140 PB9, 141 PE0, 142 VCAP, 143 VSS, 144 VDD

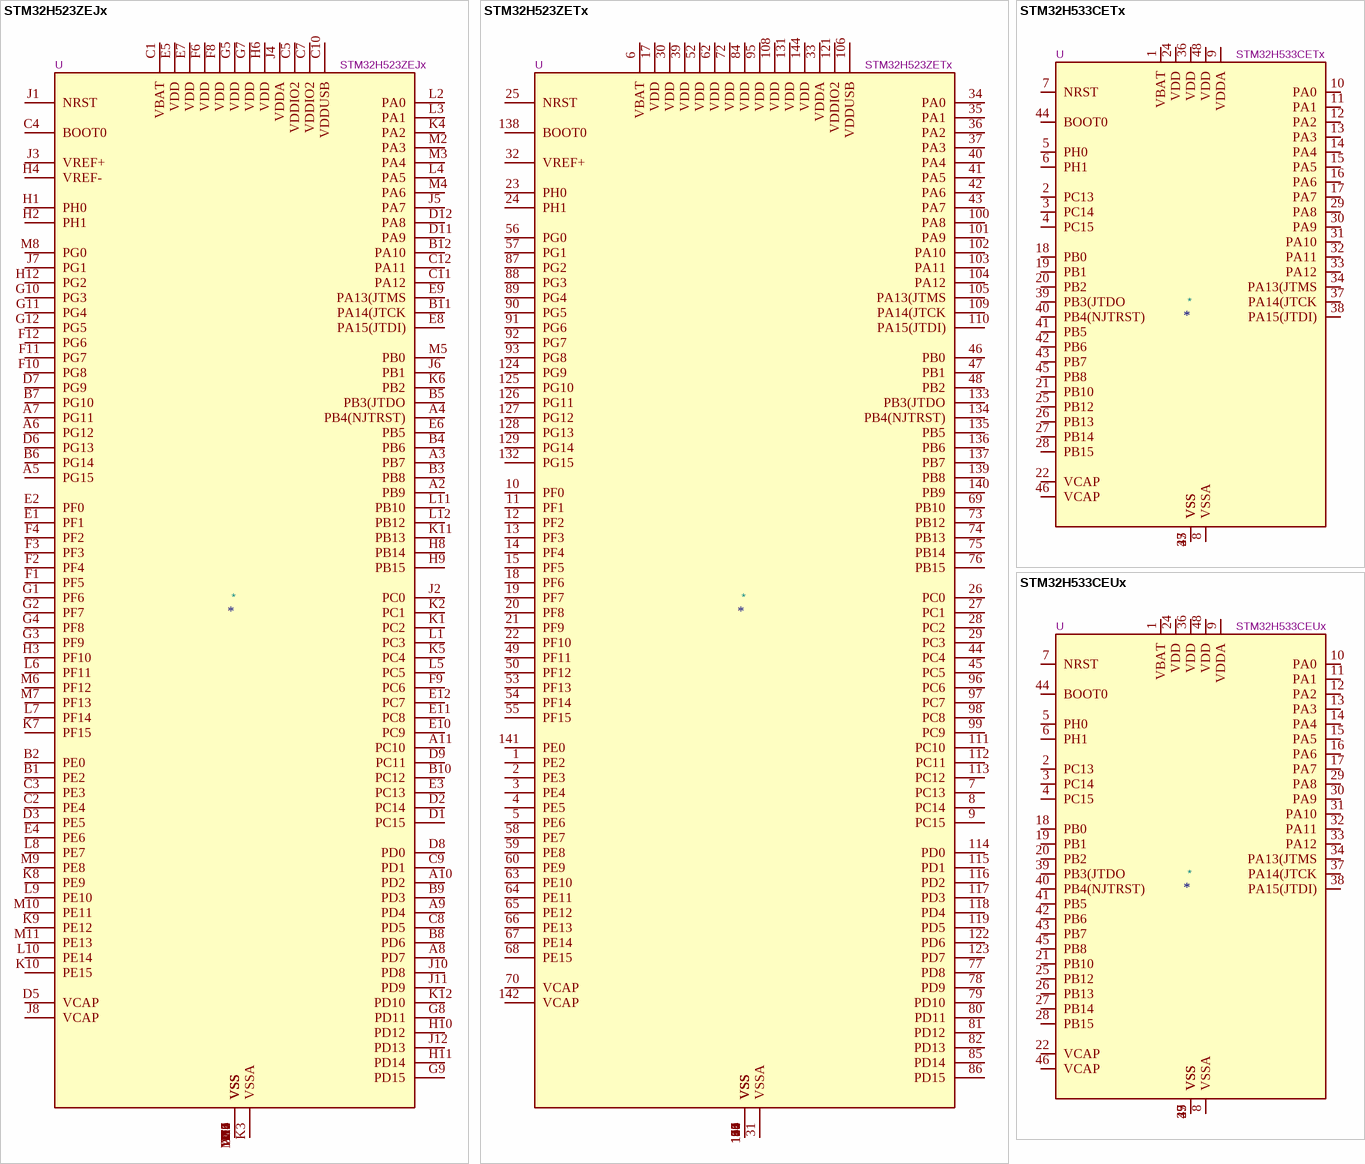
[diagram p3: symbols STM32H523ZEJx to STM32H533CEUx]

## STM32H523ZEJx
designator *  value STM32H523ZEJx  Reference: U
STMicroelectronics Arm Cortex-M33 MCU, 512KB flash, 272KB RAM, 112 GPIO, UFBGA144; ki_keywords: Arm Cortex-M33 STM32H5 STM32H5x3; ki_fp_filters: UFBGA*10x10mm*Layout12x12*P0.8mm*; Footprint: Package_BGA:UFBGA-144_10x10mm_Layout12x12_P0.8mm; Datasheet: https://www.st.com/resource/en/datasheet/stm32h523ze.pdf; Description_: STMicroelectronics Arm Cortex-M33 MCU, 512KB flash, 272KB RAM, 112 GPIO, UFBGA144
pins: A1 VSS, A2 PB9, A3 PB7, A4 PB4(NJTRST), A5 PG15, A6 PG12, A7 PG11, A8 PD7, A9 PD4, A10 PD2, A11 PC10, A12 VSS, B1 PE2, B2 PE0, B3 PB8, B4 PB6, B5 PB3(JTDO, B6 PG14, B7 PG10, B8 PD6, B9 PD3, B10 PC12, B11 PA14(JTCK, B12 PA10, C1 VBAT, C2 PE4, C3 PE3, C4 BOOT0, C5 VDDIO2, C6 VSS, C7 VDDIO2, C8 PD5, C9 PD1, C10 VDDUSB, C11 PA12, C12 PA11, D1 PC15, D2 PC14, D3 PE5, D4 VSS, D5 VCAP, D6 PG13, D7 PG9, D8 PD0, D9 PC11, D10 VSS, D11 PA9, D12 PA8, E1 PF1, E2 PF0, E3 PC13, E4 PE6, E5 VDD, E6 PB5, E7 VDD, E8 PA15(JTDI), E9 PA13(JTMS, E10 PC9, E11 PC8, E12 PC7, F1 PF5, F2 PF4, F3 PF3, F4 PF2, F5 VSS, F6 VDD, F7 VSS, F8 VDD, F9 PC6, F10 PG8, F11 PG7, F12 PG6, G1 PF6, G2 PF7, G3 PF9, G4 PF8, G5 VDD, G6 VSS, G7 VDD, G8 PD11, G9 PD15, G10 PG3, G11 PG4, G12 PG5, H1 PH0, H2 PH1, H3 PF10, H4 VREF-, H5 VSS, H6 VDD, H7 VSS, H8 PB14, H9 PB15, H10 PD12, H11 PD14, H12 PG2, J1 NRST, J2 PC0, J3 VREF+, J4 VDDA, J5 PA7, J6 PB1, J7 PG1, J8 VCAP, J9 VSS, J10 PD8, J11 PD9, J12 PD13, K1 PC2, K2 PC1, K3 VSSA, K4 PA2, K5 PC4, K6 PB2, K7 PF15, K8 PE9, K9 PE12, K10 PE15, K11 PB13, K12 PD10, L1 PC3, L2 PA0, L3 PA1, L4 PA5, L5 PC5, L6 PF11, L7 PF14, L8 PE7, L9 PE10, L10 PE14, L11 PB10, L12 PB12, M1 VSS, M2 PA3, M3 PA4, M4 PA6, M5 PB0, M6 PF12, M7 PF13, M8 PG0, M9 PE8, M10 PE11, M11 PE13, M12 VSS

## STM32H523ZETx
designator *  value STM32H523ZETx  Reference: U
STMicroelectronics Arm Cortex-M33 MCU, 512KB flash, 272KB RAM, 112 GPIO, LQFP144; ki_keywords: Arm Cortex-M33 STM32H5 STM32H5x3; ki_fp_filters: LQFP*20x20mm*P0.5mm*; Footprint: Package_QFP:LQFP-144_20x20mm_P0.5mm; Datasheet: https://www.st.com/resource/en/datasheet/stm32h523ze.pdf; Description_: STMicroelectronics Arm Cortex-M33 MCU, 512KB flash, 272KB RAM, 112 GPIO, LQFP144
pins: 1 PE2, 2 PE3, 3 PE4, 4 PE5, 5 PE6, 6 VBAT, 7 PC13, 8 PC14, 9 PC15, 10 PF0, 11 PF1, 12 PF2, 13 PF3, 14 PF4, 15 PF5, 16 VSS, 17 VDD, 18 PF6, 19 PF7, 20 PF8, 21 PF9, 22 PF10, 23 PH0, 24 PH1, 25 NRST, 26 PC0, 27 PC1, 28 PC2, 29 PC3, 30 VDD, 31 VSSA, 32 VREF+, 33 VDDA, 34 PA0, 35 PA1, 36 PA2, 37 PA3, 38 VSS, 39 VDD, 40 PA4, 41 PA5, 42 PA6, 43 PA7, 44 PC4, 45 PC5, 46 PB0, 47 PB1, 48 PB2, 49 PF11, 50 PF12, 51 VSS, 52 VDD, 53 PF13, 54 PF14, 55 PF15, 56 PG0, 57 PG1, 58 PE7, 59 PE8, 60 PE9, 61 VSS, 62 VDD, 63 PE10, 64 PE11, 65 PE12, 66 PE13, 67 PE14, 68 PE15, 69 PB10, 70 VCAP, 71 VSS, 72 VDD, 73 PB12, 74 PB13, 75 PB14, 76 PB15, 77 PD8, 78 PD9, 79 PD10, 80 PD11, 81 PD12, 82 PD13, 83 VSS, 84 VDD, 85 PD14, 86 PD15, 87 PG2, 88 PG3, 89 PG4, 90 PG5, 91 PG6, 92 PG7, 93 PG8, 94 VSS, 95 VDD, 96 PC6, 97 PC7, 98 PC8, 99 PC9, 100 PA8, 101 PA9, 102 PA10, 103 PA11, 104 PA12, 105 PA13(JTMS, 106 VDDUSB, 107 VSS, 108 VDD, 109 PA14(JTCK, 110 PA15(JTDI), 111 PC10, 112 PC11, 113 PC12, 114 PD0, 115 PD1, 116 PD2, 117 PD3, 118 PD4, 119 PD5, 120 VSS, 121 VDDIO2, 122 PD6, 123 PD7, 124 PG9, 125 PG10, 126 PG11, 127 PG12, 128 PG13, 129 PG14, 130 VSS, 131 VDD, 132 PG15, 133 PB3(JTDO, 134 PB4(NJTRST), 135 PB5, 136 PB6, 137 PB7, 138 BOOT0, 139 PB8, 140 PB9, 141 PE0, 142 VCAP, 143 VSS, 144 VDD

## STM32H533CETx
designator *  value STM32H533CETx  Reference: U
STMicroelectronics Arm Cortex-M33 MCU, 512KB flash, 272KB RAM, 35 GPIO, LQFP48; ki_keywords: Arm Cortex-M33 STM32H5 STM32H5x3; ki_fp_filters: LQFP*7x7mm*P0.5mm*; Footprint: Package_QFP:LQFP-48_7x7mm_P0.5mm; Datasheet: https://www.st.com/resource/en/datasheet/stm32h533ce.pdf; Description_: STMicroelectronics Arm Cortex-M33 MCU, 512KB flash, 272KB RAM, 35 GPIO, LQFP48
pins: 1 VBAT, 2 PC13, 3 PC14, 4 PC15, 5 PH0, 6 PH1, 7 NRST, 8 VSSA, 9 VDDA, 10 PA0, 11 PA1, 12 PA2, 13 PA3, 14 PA4, 15 PA5, 16 PA6, 17 PA7, 18 PB0, 19 PB1, 20 PB2, 21 PB10, 22 VCAP, 23 VSS, 24 VDD, 25 PB12, 26 PB13, 27 PB14, 28 PB15, 29 PA8, 30 PA9, 31 PA10, 32 PA11, 33 PA12, 34 PA13(JTMS, 35 VSS, 36 VDD, 37 PA14(JTCK, 38 PA15(JTDI), 39 PB3(JTDO, 40 PB4(NJTRST), 41 PB5, 42 PB6, 43 PB7, 44 BOOT0, 45 PB8, 46 VCAP, 47 VSS, 48 VDD

## STM32H533CEUx
designator *  value STM32H533CEUx  Reference: U
STMicroelectronics Arm Cortex-M33 MCU, 512KB flash, 272KB RAM, 35 GPIO, UFQFPN48; ki_keywords: Arm Cortex-M33 STM32H5 STM32H5x3; ki_fp_filters: QFN*1EP*7x7mm*P0.5mm*; Footprint: Package_DFN_QFN:QFN-48-1EP_7x7mm_P0.5mm_EP5.6x5.6mm; Datasheet: https://www.st.com/resource/en/datasheet/stm32h533ce.pdf; Description_: STMicroelectronics Arm Cortex-M33 MCU, 512KB flash, 272KB RAM, 35 GPIO, UFQFPN48
pins: 1 VBAT, 2 PC13, 3 PC14, 4 PC15, 5 PH0, 6 PH1, 7 NRST, 8 VSSA, 9 VDDA, 10 PA0, 11 PA1, 12 PA2, 13 PA3, 14 PA4, 15 PA5, 16 PA6, 17 PA7, 18 PB0, 19 PB1, 20 PB2, 21 PB10, 22 VCAP, 23 VSS, 24 VDD, 25 PB12, 26 PB13, 27 PB14, 28 PB15, 29 PA8, 30 PA9, 31 PA10, 32 PA11, 33 PA12, 34 PA13(JTMS, 35 VSS, 36 VDD, 37 PA14(JTCK, 38 PA15(JTDI), 39 PB3(JTDO, 40 PB4(NJTRST), 41 PB5, 42 PB6, 43 PB7, 44 BOOT0, 45 PB8, 46 VCAP, 47 VSS, 48 VDD, 49 VSS

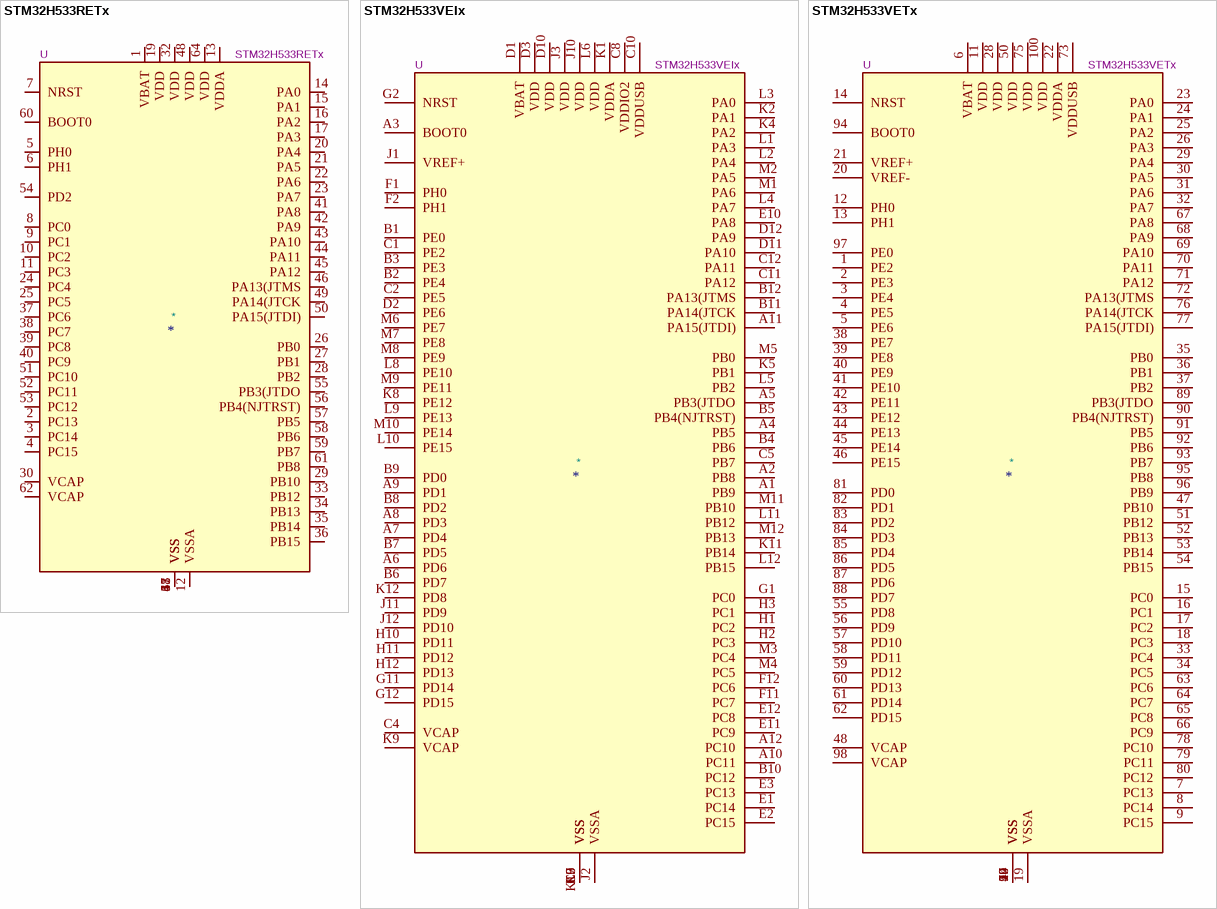
[diagram p4: symbols STM32H533RETx to STM32H533VETx]

## STM32H533RETx
designator *  value STM32H533RETx  Reference: U
STMicroelectronics Arm Cortex-M33 MCU, 512KB flash, 272KB RAM, 49 GPIO, LQFP64; ki_keywords: Arm Cortex-M33 STM32H5 STM32H5x3; ki_fp_filters: LQFP*10x10mm*P0.5mm*; Footprint: Package_QFP:LQFP-64_10x10mm_P0.5mm; Datasheet: https://www.st.com/resource/en/datasheet/stm32h533re.pdf; Description_: STMicroelectronics Arm Cortex-M33 MCU, 512KB flash, 272KB RAM, 49 GPIO, LQFP64
pins: 1 VBAT, 2 PC13, 3 PC14, 4 PC15, 5 PH0, 6 PH1, 7 NRST, 8 PC0, 9 PC1, 10 PC2, 11 PC3, 12 VSSA, 13 VDDA, 14 PA0, 15 PA1, 16 PA2, 17 PA3, 18 VSS, 19 VDD, 20 PA4, 21 PA5, 22 PA6, 23 PA7, 24 PC4, 25 PC5, 26 PB0, 27 PB1, 28 PB2, 29 PB10, 30 VCAP, 31 VSS, 32 VDD, 33 PB12, 34 PB13, 35 PB14, 36 PB15, 37 PC6, 38 PC7, 39 PC8, 40 PC9, 41 PA8, 42 PA9, 43 PA10, 44 PA11, 45 PA12, 46 PA13(JTMS, 47 VSS, 48 VDD, 49 PA14(JTCK, 50 PA15(JTDI), 51 PC10, 52 PC11, 53 PC12, 54 PD2, 55 PB3(JTDO, 56 PB4(NJTRST), 57 PB5, 58 PB6, 59 PB7, 60 BOOT0, 61 PB8, 62 VCAP, 63 VSS, 64 VDD

## STM32H533VEIx
designator *  value STM32H533VEIx  Reference: U
STMicroelectronics Arm Cortex-M33 MCU, 512KB flash, 272KB RAM, 80 GPIO, UFBGA100; ki_keywords: Arm Cortex-M33 STM32H5 STM32H5x3; ki_fp_filters: UFBGA*7x7mm*Layout12x12*P0.5mm*; Footprint: Package_BGA:UFBGA-100_7x7mm_Layout12x12_P0.5mm; Datasheet: https://www.st.com/resource/en/datasheet/stm32h533ve.pdf; Description_: STMicroelectronics Arm Cortex-M33 MCU, 512KB flash, 272KB RAM, 80 GPIO, UFBGA100
pins: A1 PB9, A2 PB8, A3 BOOT0, A4 PB5, A5 PB3(JTDO, A6 PD6, A7 PD4, A8 PD3, A9 PD1, A10 PC11, A11 PA15(JTDI), A12 PC10, B1 PE0, B2 PE4, B3 PE3, B4 PB6, B5 PB4(NJTRST), B6 PD7, B7 PD5, B8 PD2, B9 PD0, B10 PC12, B11 PA14(JTCK, B12 PA13(JTMS, C1 PE2, C2 PE5, C3 VSS, C4 VCAP, C5 PB7, C8 VDDIO2, C9 VSS, C10 VDDUSB, C11 PA12, C12 PA11, D1 VBAT, D2 PE6, D3 VDD, D10 VDD, D11 PA10, D12 PA9, E1 PC14, E2 PC15, E3 PC13, E10 PA8, E11 PC9, E12 PC8, F1 PH0, F2 PH1, F11 PC7, F12 PC6, G1 PC0, G2 NRST, G11 PD14, G12 PD15, H1 PC2, H2 PC3, H3 PC1, H10 PD11, H11 PD12, H12 PD13, J1 VREF+, J2 VSSA, J3 VDD, J10 VDD, J11 PD9, J12 PD10, K1 VDDA, K2 PA1, K3 VSS, K4 PA2, K5 PB1, K8 PE12, K9 VCAP, K10 VSS, K11 PB14, K12 PD8, L1 PA3, L2 PA4, L3 PA0, L4 PA7, L5 PB2, L6 VDD, L7 VSS, L8 PE10, L9 PE13, L10 PE15, L11 PB12, L12 PB15, M1 PA6, M2 PA5, M3 PC4, M4 PC5, M5 PB0, M6 PE7, M7 PE8, M8 PE9, M9 PE11, M10 PE14, M11 PB10, M12 PB13

## STM32H533VETx
designator *  value STM32H533VETx  Reference: U
STMicroelectronics Arm Cortex-M33 MCU, 512KB flash, 272KB RAM, 80 GPIO, LQFP100; ki_keywords: Arm Cortex-M33 STM32H5 STM32H5x3; ki_fp_filters: LQFP*14x14mm*P0.5mm*; Footprint: Package_QFP:LQFP-100_14x14mm_P0.5mm; Datasheet: https://www.st.com/resource/en/datasheet/stm32h533ve.pdf; Description_: STMicroelectronics Arm Cortex-M33 MCU, 512KB flash, 272KB RAM, 80 GPIO, LQFP100
pins: 1 PE2, 2 PE3, 3 PE4, 4 PE5, 5 PE6, 6 VBAT, 7 PC13, 8 PC14, 9 PC15, 10 VSS, 11 VDD, 12 PH0, 13 PH1, 14 NRST, 15 PC0, 16 PC1, 17 PC2, 18 PC3, 19 VSSA, 20 VREF-, 21 VREF+, 22 VDDA, 23 PA0, 24 PA1, 25 PA2, 26 PA3, 27 VSS, 28 VDD, 29 PA4, 30 PA5, 31 PA6, 32 PA7, 33 PC4, 34 PC5, 35 PB0, 36 PB1, 37 PB2, 38 PE7, 39 PE8, 40 PE9, 41 PE10, 42 PE11, 43 PE12, 44 PE13, 45 PE14, 46 PE15, 47 PB10, 48 VCAP, 49 VSS, 50 VDD, 51 PB12, 52 PB13, 53 PB14, 54 PB15, 55 PD8, 56 PD9, 57 PD10, 58 PD11, 59 PD12, 60 PD13, 61 PD14, 62 PD15, 63 PC6, 64 PC7, 65 PC8, 66 PC9, 67 PA8, 68 PA9, 69 PA10, 70 PA11, 71 PA12, 72 PA13(JTMS, 73 VDDUSB, 74 VSS, 75 VDD, 76 PA14(JTCK, 77 PA15(JTDI), 78 PC10, 79 PC11, 80 PC12, 81 PD0, 82 PD1, 83 PD2, 84 PD3, 85 PD4, 86 PD5, 87 PD6, 88 PD7, 89 PB3(JTDO, 90 PB4(NJTRST), 91 PB5, 92 PB6, 93 PB7, 94 BOOT0, 95 PB8, 96 PB9, 97 PE0, 98 VCAP, 99 VSS, 100 VDD

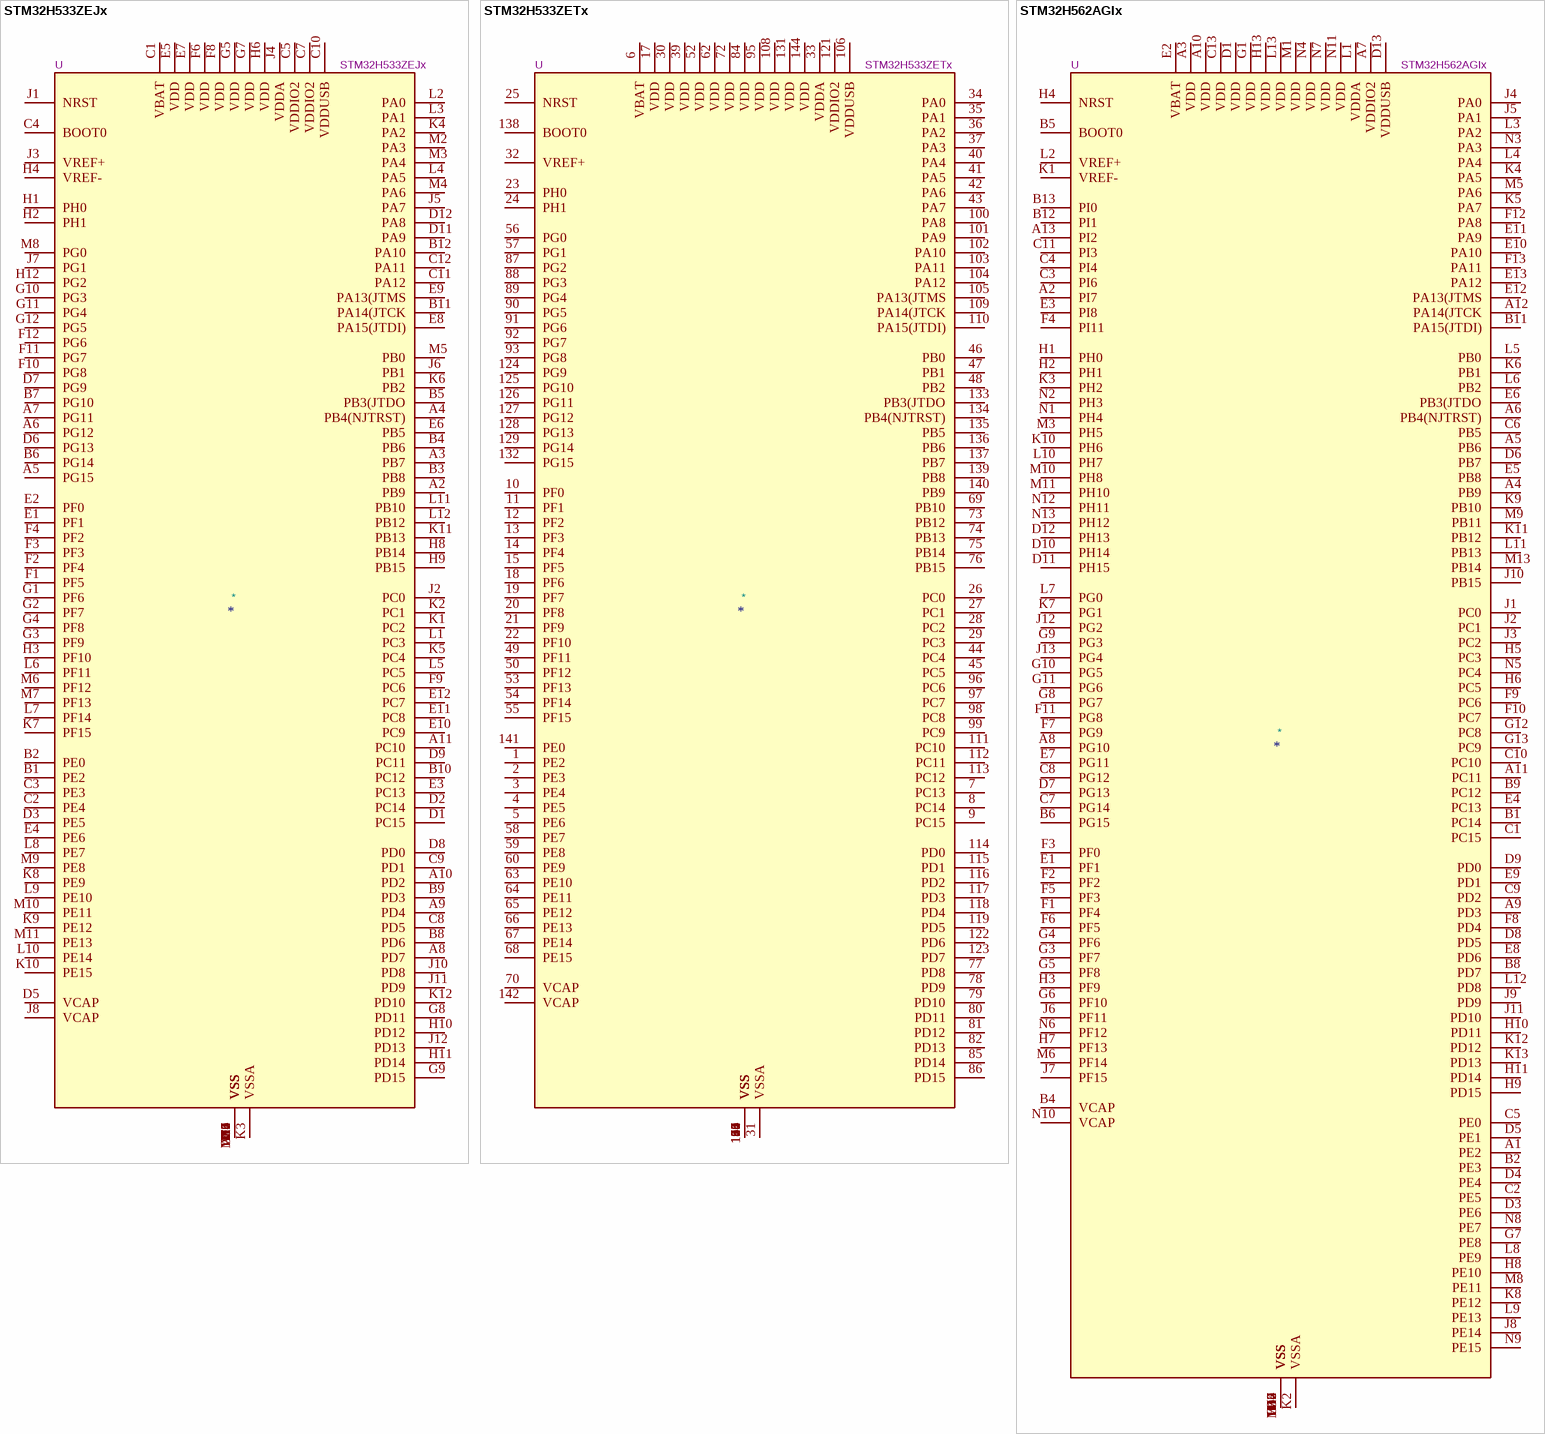
[diagram p5: symbols STM32H533ZEJx to STM32H562AGIx]

## STM32H533ZEJx
designator *  value STM32H533ZEJx  Reference: U
STMicroelectronics Arm Cortex-M33 MCU, 512KB flash, 272KB RAM, 112 GPIO, UFBGA144; ki_keywords: Arm Cortex-M33 STM32H5 STM32H5x3; ki_fp_filters: UFBGA*10x10mm*Layout12x12*P0.8mm*; Footprint: Package_BGA:UFBGA-144_10x10mm_Layout12x12_P0.8mm; Datasheet: https://www.st.com/resource/en/datasheet/stm32h533ze.pdf; Description_: STMicroelectronics Arm Cortex-M33 MCU, 512KB flash, 272KB RAM, 112 GPIO, UFBGA144
pins: A1 VSS, A2 PB9, A3 PB7, A4 PB4(NJTRST), A5 PG15, A6 PG12, A7 PG11, A8 PD7, A9 PD4, A10 PD2, A11 PC10, A12 VSS, B1 PE2, B2 PE0, B3 PB8, B4 PB6, B5 PB3(JTDO, B6 PG14, B7 PG10, B8 PD6, B9 PD3, B10 PC12, B11 PA14(JTCK, B12 PA10, C1 VBAT, C2 PE4, C3 PE3, C4 BOOT0, C5 VDDIO2, C6 VSS, C7 VDDIO2, C8 PD5, C9 PD1, C10 VDDUSB, C11 PA12, C12 PA11, D1 PC15, D2 PC14, D3 PE5, D4 VSS, D5 VCAP, D6 PG13, D7 PG9, D8 PD0, D9 PC11, D10 VSS, D11 PA9, D12 PA8, E1 PF1, E2 PF0, E3 PC13, E4 PE6, E5 VDD, E6 PB5, E7 VDD, E8 PA15(JTDI), E9 PA13(JTMS, E10 PC9, E11 PC8, E12 PC7, F1 PF5, F2 PF4, F3 PF3, F4 PF2, F5 VSS, F6 VDD, F7 VSS, F8 VDD, F9 PC6, F10 PG8, F11 PG7, F12 PG6, G1 PF6, G2 PF7, G3 PF9, G4 PF8, G5 VDD, G6 VSS, G7 VDD, G8 PD11, G9 PD15, G10 PG3, G11 PG4, G12 PG5, H1 PH0, H2 PH1, H3 PF10, H4 VREF-, H5 VSS, H6 VDD, H7 VSS, H8 PB14, H9 PB15, H10 PD12, H11 PD14, H12 PG2, J1 NRST, J2 PC0, J3 VREF+, J4 VDDA, J5 PA7, J6 PB1, J7 PG1, J8 VCAP, J9 VSS, J10 PD8, J11 PD9, J12 PD13, K1 PC2, K2 PC1, K3 VSSA, K4 PA2, K5 PC4, K6 PB2, K7 PF15, K8 PE9, K9 PE12, K10 PE15, K11 PB13, K12 PD10, L1 PC3, L2 PA0, L3 PA1, L4 PA5, L5 PC5, L6 PF11, L7 PF14, L8 PE7, L9 PE10, L10 PE14, L11 PB10, L12 PB12, M1 VSS, M2 PA3, M3 PA4, M4 PA6, M5 PB0, M6 PF12, M7 PF13, M8 PG0, M9 PE8, M10 PE11, M11 PE13, M12 VSS

## STM32H533ZETx
designator *  value STM32H533ZETx  Reference: U
STMicroelectronics Arm Cortex-M33 MCU, 512KB flash, 272KB RAM, 112 GPIO, LQFP144; ki_keywords: Arm Cortex-M33 STM32H5 STM32H5x3; ki_fp_filters: LQFP*20x20mm*P0.5mm*; Footprint: Package_QFP:LQFP-144_20x20mm_P0.5mm; Datasheet: https://www.st.com/resource/en/datasheet/stm32h533ze.pdf; Description_: STMicroelectronics Arm Cortex-M33 MCU, 512KB flash, 272KB RAM, 112 GPIO, LQFP144
pins: 1 PE2, 2 PE3, 3 PE4, 4 PE5, 5 PE6, 6 VBAT, 7 PC13, 8 PC14, 9 PC15, 10 PF0, 11 PF1, 12 PF2, 13 PF3, 14 PF4, 15 PF5, 16 VSS, 17 VDD, 18 PF6, 19 PF7, 20 PF8, 21 PF9, 22 PF10, 23 PH0, 24 PH1, 25 NRST, 26 PC0, 27 PC1, 28 PC2, 29 PC3, 30 VDD, 31 VSSA, 32 VREF+, 33 VDDA, 34 PA0, 35 PA1, 36 PA2, 37 PA3, 38 VSS, 39 VDD, 40 PA4, 41 PA5, 42 PA6, 43 PA7, 44 PC4, 45 PC5, 46 PB0, 47 PB1, 48 PB2, 49 PF11, 50 PF12, 51 VSS, 52 VDD, 53 PF13, 54 PF14, 55 PF15, 56 PG0, 57 PG1, 58 PE7, 59 PE8, 60 PE9, 61 VSS, 62 VDD, 63 PE10, 64 PE11, 65 PE12, 66 PE13, 67 PE14, 68 PE15, 69 PB10, 70 VCAP, 71 VSS, 72 VDD, 73 PB12, 74 PB13, 75 PB14, 76 PB15, 77 PD8, 78 PD9, 79 PD10, 80 PD11, 81 PD12, 82 PD13, 83 VSS, 84 VDD, 85 PD14, 86 PD15, 87 PG2, 88 PG3, 89 PG4, 90 PG5, 91 PG6, 92 PG7, 93 PG8, 94 VSS, 95 VDD, 96 PC6, 97 PC7, 98 PC8, 99 PC9, 100 PA8, 101 PA9, 102 PA10, 103 PA11, 104 PA12, 105 PA13(JTMS, 106 VDDUSB, 107 VSS, 108 VDD, 109 PA14(JTCK, 110 PA15(JTDI), 111 PC10, 112 PC11, 113 PC12, 114 PD0, 115 PD1, 116 PD2, 117 PD3, 118 PD4, 119 PD5, 120 VSS, 121 VDDIO2, 122 PD6, 123 PD7, 124 PG9, 125 PG10, 126 PG11, 127 PG12, 128 PG13, 129 PG14, 130 VSS, 131 VDD, 132 PG15, 133 PB3(JTDO, 134 PB4(NJTRST), 135 PB5, 136 PB6, 137 PB7, 138 BOOT0, 139 PB8, 140 PB9, 141 PE0, 142 VCAP, 143 VSS, 144 VDD

## STM32H562AGIx
designator *  value STM32H562AGIx  Reference: U
STMicroelectronics Arm Cortex-M33 MCU, 1024KB flash, 640KB RAM, 136 GPIO, UFBGA169; ki_keywords: Arm Cortex-M33 STM32H5 STM32H5x2; ki_fp_filters: UFBGA*7x7mm*Layout13x13*P0.5mm*; Footprint: Package_BGA:UFBGA-169_7x7mm_Layout13x13_P0.5mm; Datasheet: https://www.st.com/resource/en/datasheet/stm32h562ag.pdf; Description_: STMicroelectronics Arm Cortex-M33 MCU, 1024KB flash, 640KB RAM, 136 GPIO, UFBGA169
pins: A1 PE2, A2 PI7, A3 VDD, A4 PB9, A5 PB6, A6 PB4(NJTRST), A7 VDDIO2, A8 PG10, A9 PD3, A10 VDD, A11 PC11, A12 PA14(JTCK, A13 PI2, B1 PC14, B2 PE3, B3 VSS, B4 VCAP, B5 BOOT0, B6 PG15, B7 VSS, B8 PD7, B9 PC12, B10 VSS, B11 PA15(JTDI), B12 PI1, B13 PI0, C1 PC15, C2 PE5, C3 PI6, C4 PI4, C5 PE0, C6 PB5, C7 PG14, C8 PG12, C9 PD2, C10 PC10, C11 PI3, C12 VSS, C13 VDD, D1 VDD, D2 VSS, D3 PE6, D4 PE4, D5 PE1, D6 PB7, D7 PG13, D8 PD5, D9 PD0, D10 PH14, D11 PH15, D12 PH13, D13 VDDUSB, E1 PF1, E2 VBAT, E3 PI8, E4 PC13, E5 PB8, E6 PB3(JTDO, E7 PG11, E8 PD6, E9 PD1, E10 PA10, E11 PA9, E12 PA13(JTMS, E13 PA12, F1 PF4, F2 PF2, F3 PF0, F4 PI11, F5 PF3, F6 PF5, F7 PG9, F8 PD4, F9 PC6, F10 PC7, F11 PG8, F12 PA8, F13 PA11, G1 VDD, G2 VSS, G3 PF7, G4 PF6, G5 PF8, G6 PF10, G7 PE8, G8 PG7, G9 PG3, G10 PG5, G11 PG6, G12 PC8, G13 PC9, H1 PH0, H2 PH1, H3 PF9, H4 NRST, H5 PC3, H6 PC5, H7 PF13, H8 PE10, H9 PD15, H10 PD11, H11 PD14, H12 VSS, H13 VDD, J1 PC0, J2 PC1, J3 PC2, J4 PA0, J5 PA1, J6 PF11, J7 PF15, J8 PE14, J9 PD9, J10 PB15, J11 PD10, J12 PG2, J13 PG4, K1 VREF-, K2 VSSA, K3 PH2, K4 PA5, K5 PA7, K6 PB1, K7 PG1, K8 PE12, K9 PB10, K10 PH6, K11 PB12, K12 PD12, K13 PD13, L1 VDDA, L2 VREF+, L3 PA2, L4 PA4, L5 PB0, L6 PB2, L7 PG0, L8 PE9, L9 PE13, L10 PH7, L11 PB13, L12 PD8, L13 VDD, M1 VDD, M2 VSS, M3 PH5, M4 VSS, M5 PA6, M6 PF14, M7 VSS, M8 PE11, M9 PB11, M10 PH8, M11 PH10, M12 VSS, M13 PB14, N1 PH4, N2 PH3, N3 PA3, N4 VDD, N5 PC4, N6 PF12, N7 VDD, N8 PE7, N9 PE15, N10 VCAP, N11 VDD, N12 PH11, N13 PH12

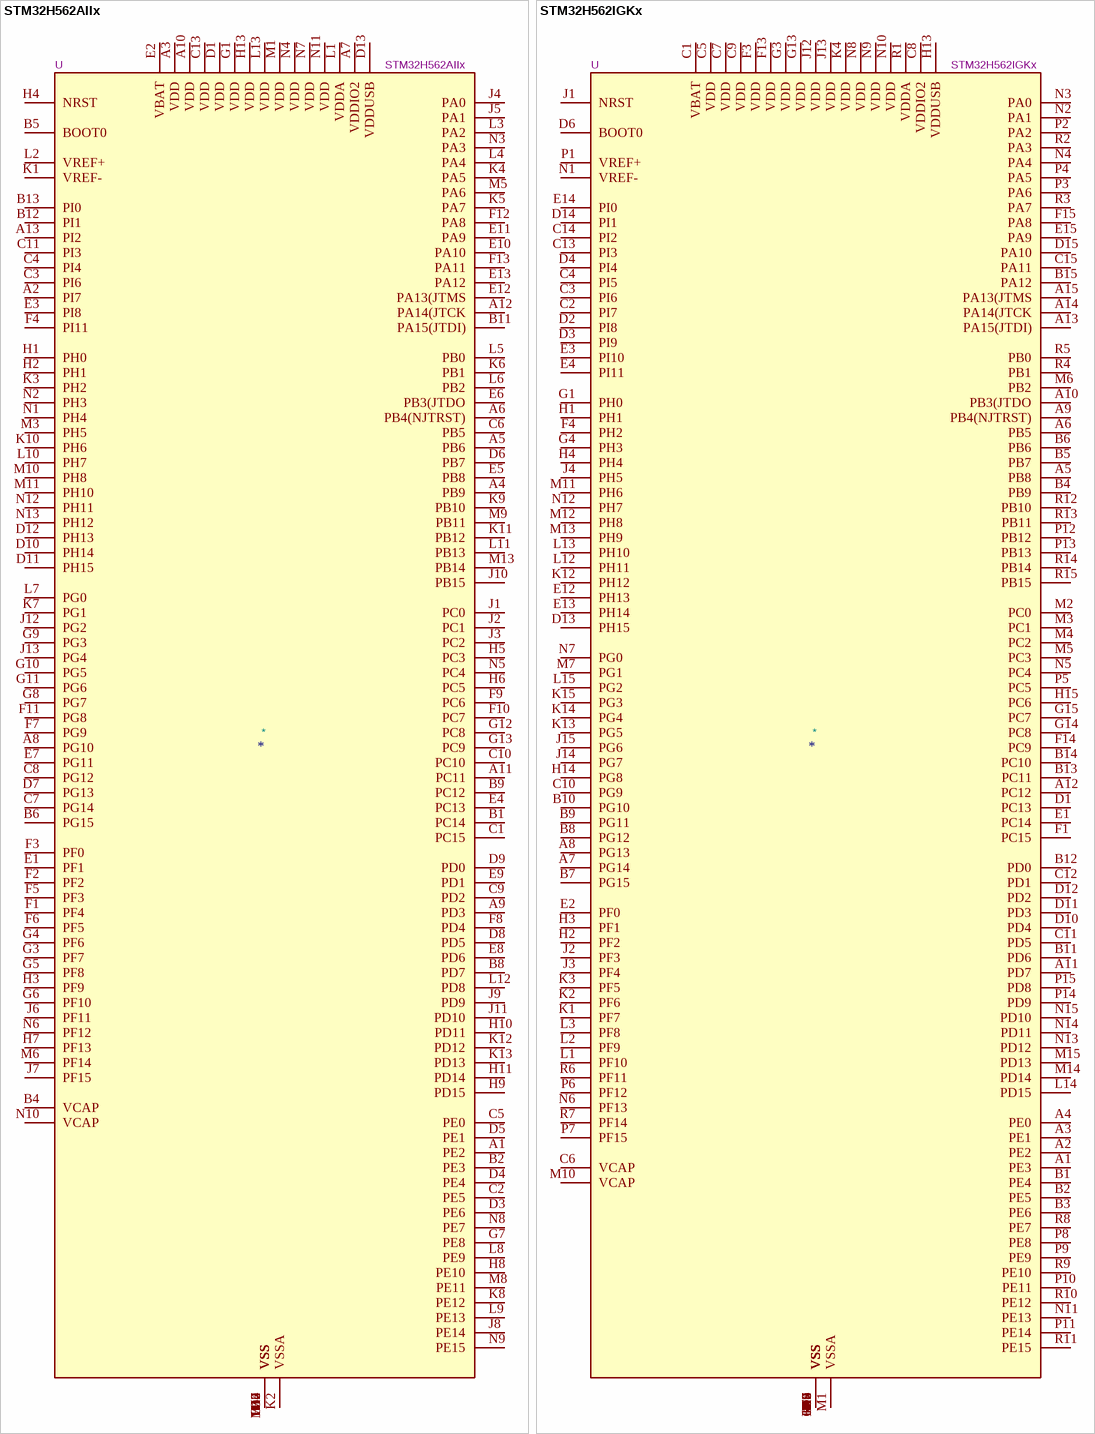
[diagram p6: symbols STM32H562AIIx to STM32H562IGKx]

## STM32H562AIIx
designator *  value STM32H562AIIx  Reference: U
STMicroelectronics Arm Cortex-M33 MCU, 2048KB flash, 640KB RAM, 250 MHz, 1.62-3.6V, 136 GPIO, UFBGA169; ki_keywords: Arm Cortex-M33 STM32H5 STM32H562; ki_fp_filters: UFBGA*7x7mm*Layout13x13*P0.5mm*; Footprint: Package_BGA:UFBGA-169_7x7mm_Layout13x13_P0.5mm; Datasheet: https://www.st.com/resource/en/datasheet/stm32h562ai.pdf; Description_: STMicroelectronics Arm Cortex-M33 MCU, 2048KB flash, 640KB RAM, 250 MHz, 1.62-3.6V, 136 GPIO, UFBGA169
pins: A1 PE2, A2 PI7, A3 VDD, A4 PB9, A5 PB6, A6 PB4(NJTRST), A7 VDDIO2, A8 PG10, A9 PD3, A10 VDD, A11 PC11, A12 PA14(JTCK, A13 PI2, B1 PC14, B2 PE3, B3 VSS, B4 VCAP, B5 BOOT0, B6 PG15, B7 VSS, B8 PD7, B9 PC12, B10 VSS, B11 PA15(JTDI), B12 PI1, B13 PI0, C1 PC15, C2 PE5, C3 PI6, C4 PI4, C5 PE0, C6 PB5, C7 PG14, C8 PG12, C9 PD2, C10 PC10, C11 PI3, C12 VSS, C13 VDD, D1 VDD, D2 VSS, D3 PE6, D4 PE4, D5 PE1, D6 PB7, D7 PG13, D8 PD5, D9 PD0, D10 PH14, D11 PH15, D12 PH13, D13 VDDUSB, E1 PF1, E2 VBAT, E3 PI8, E4 PC13, E5 PB8, E6 PB3(JTDO, E7 PG11, E8 PD6, E9 PD1, E10 PA10, E11 PA9, E12 PA13(JTMS, E13 PA12, F1 PF4, F2 PF2, F3 PF0, F4 PI11, F5 PF3, F6 PF5, F7 PG9, F8 PD4, F9 PC6, F10 PC7, F11 PG8, F12 PA8, F13 PA11, G1 VDD, G2 VSS, G3 PF7, G4 PF6, G5 PF8, G6 PF10, G7 PE8, G8 PG7, G9 PG3, G10 PG5, G11 PG6, G12 PC8, G13 PC9, H1 PH0, H2 PH1, H3 PF9, H4 NRST, H5 PC3, H6 PC5, H7 PF13, H8 PE10, H9 PD15, H10 PD11, H11 PD14, H12 VSS, H13 VDD, J1 PC0, J2 PC1, J3 PC2, J4 PA0, J5 PA1, J6 PF11, J7 PF15, J8 PE14, J9 PD9, J10 PB15, J11 PD10, J12 PG2, J13 PG4, K1 VREF-, K2 VSSA, K3 PH2, K4 PA5, K5 PA7, K6 PB1, K7 PG1, K8 PE12, K9 PB10, K10 PH6, K11 PB12, K12 PD12, K13 PD13, L1 VDDA, L2 VREF+, L3 PA2, L4 PA4, L5 PB0, L6 PB2, L7 PG0, L8 PE9, L9 PE13, L10 PH7, L11 PB13, L12 PD8, L13 VDD, M1 VDD, M2 VSS, M3 PH5, M4 VSS, M5 PA6, M6 PF14, M7 VSS, M8 PE11, M9 PB11, M10 PH8, M11 PH10, M12 VSS, M13 PB14, N1 PH4, N2 PH3, N3 PA3, N4 VDD, N5 PC4, N6 PF12, N7 VDD, N8 PE7, N9 PE15, N10 VCAP, N11 VDD, N12 PH11, N13 PH12

## STM32H562IGKx
designator *  value STM32H562IGKx  Reference: U
STMicroelectronics Arm Cortex-M33 MCU, 1024KB flash, 640KB RAM, 140 GPIO, UFBGA176; ki_keywords: Arm Cortex-M33 STM32H5 STM32H5x2; ki_fp_filters: UFBGA*10x10mm*Layout15x15*P0.65mm*; Footprint: Package_BGA:UFBGA-201_10x10mm_Layout15x15_P0.65mm; Datasheet: https://www.st.com/resource/en/datasheet/stm32h562ig.pdf; Description_: STMicroelectronics Arm Cortex-M33 MCU, 1024KB flash, 640KB RAM, 140 GPIO, UFBGA176
pins: A1 PE3, A2 PE2, A3 PE1, A4 PE0, A5 PB8, A6 PB5, A7 PG14, A8 PG13, A9 PB4(NJTRST), A10 PB3(JTDO, A11 PD7, A12 PC12, A13 PA15(JTDI), A14 PA14(JTCK, A15 PA13(JTMS, B1 PE4, B2 PE5, B3 PE6, B4 PB9, B5 PB7, B6 PB6, B7 PG15, B8 PG12, B9 PG11, B10 PG10, B11 PD6, B12 PD0, B13 PC11, B14 PC10, B15 PA12, C1 VBAT, C2 PI7, C3 PI6, C4 PI5, C5 VDD, C6 VCAP, C7 VDD, C8 VDDIO2, C9 VDD, C10 PG9, C11 PD5, C12 PD1, C13 PI3, C14 PI2, C15 PA11, D1 PC13, D2 PI8, D3 PI9, D4 PI4, D5 VSS, D6 BOOT0, D7 VSS, D8 VSS, D9 VSS, D10 PD4, D11 PD3, D12 PD2, D13 PH15, D14 PI1, D15 PA10, E1 PC14, E2 PF0, E3 PI10, E4 PI11, E12 PH13, E13 PH14, E14 PI0, E15 PA9, F1 PC15, F2 VSS, F3 VDD, F4 PH2, F6 VSS, F7 VSS, F8 VSS, F9 VSS, F10 VSS, F12 VSS, F13 VDD, F14 PC9, F15 PA8, G1 PH0, G2 VSS, G3 VDD, G4 PH3, G6 VSS, G7 VSS, G8 VSS, G9 VSS, G10 VSS, G12 VSS, G13 VDD, G14 PC8, G15 PC7, H1 PH1, H2 PF2, H3 PF1, H4 PH4, H6 VSS, H7 VSS, H8 VSS, H9 VSS, H10 VSS, H12 VSS, H13 VDDUSB, H14 PG8, H15 PC6, J1 NRST, J2 PF3, J3 PF4, J4 PH5, J6 VSS, J7 VSS, J8 VSS, J9 VSS, J10 VSS, J12 VDD, J13 VDD, J14 PG7, J15 PG6, K1 PF7, K2 PF6, K3 PF5, K4 VDD, K6 VSS, K7 VSS, K8 VSS, K9 VSS, K10 VSS, K12 PH12, K13 PG5, K14 PG4, K15 PG3, L1 PF10, L2 PF9, L3 PF8, L4 VSS, L12 PH11, L13 PH10, L14 PD15, L15 PG2, M1 VSSA, M2 PC0, M3 PC1, M4 PC2, M5 PC3, M6 PB2, M7 PG1, M8 VSS, M9 VSS, M10 VCAP, M11 PH6, M12 PH8, M13 PH9, M14 PD14, M15 PD13, N1 VREF-, N2 PA1, N3 PA0, N4 PA4, N5 PC4, N6 PF13, N7 PG0, N8 VDD, N9 VDD, N10 VDD, N11 PE13, N12 PH7, N13 PD12, N14 PD11, N15 PD10, P1 VREF+, P2 PA2, P3 PA6, P4 PA5, P5 PC5, P6 PF12, P7 PF15, P8 PE8, P9 PE9, P10 PE11, P11 PE14, P12 PB12, P13 PB13, P14 PD9, P15 PD8, R1 VDDA, R2 PA3, R3 PA7, R4 PB1, R5 PB0, R6 PF11, R7 PF14, R8 PE7, R9 PE10, R10 PE12, R11 PE15, R12 PB10, R13 PB11, R14 PB14, R15 PB15

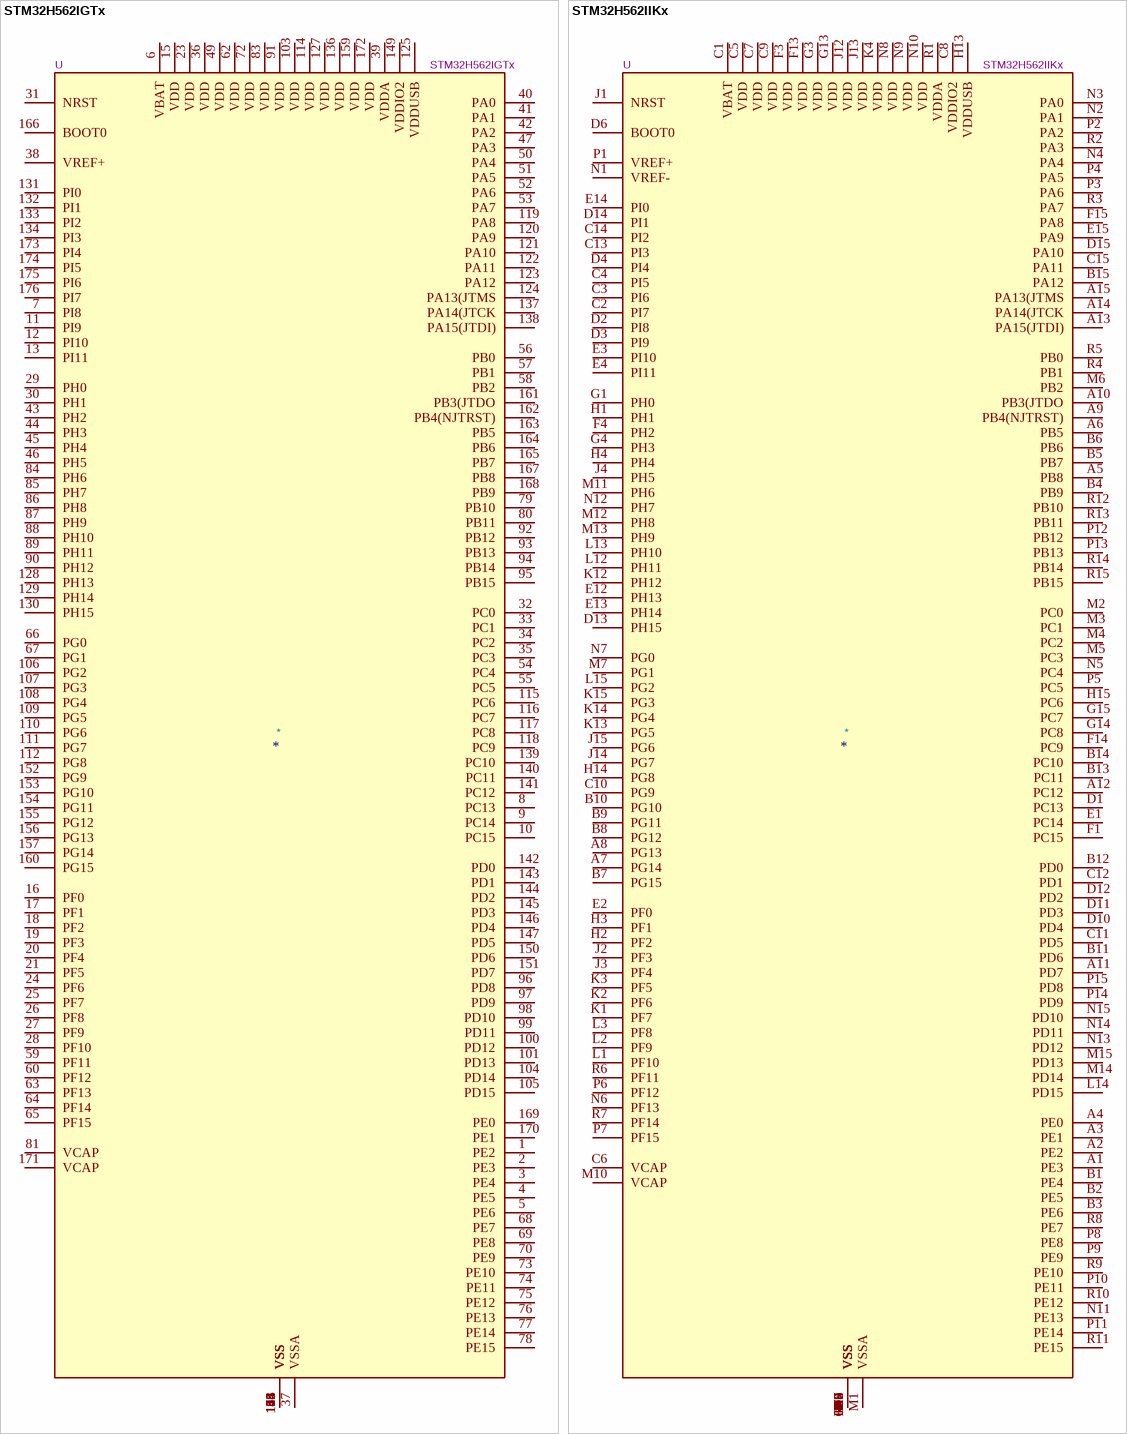
[diagram p7: symbols STM32H562IGTx to STM32H562IIKx]

## STM32H562IGTx
designator *  value STM32H562IGTx  Reference: U
STMicroelectronics Arm Cortex-M33 MCU, 1024KB flash, 640KB RAM, 140 GPIO, LQFP176; ki_keywords: Arm Cortex-M33 STM32H5 STM32H5x2; ki_fp_filters: LQFP*24x24mm*P0.5mm*; Footprint: Package_QFP:LQFP-176_24x24mm_P0.5mm; Datasheet: https://www.st.com/resource/en/datasheet/stm32h562ig.pdf; Description_: STMicroelectronics Arm Cortex-M33 MCU, 1024KB flash, 640KB RAM, 140 GPIO, LQFP176
pins: 1 PE2, 2 PE3, 3 PE4, 4 PE5, 5 PE6, 6 VBAT, 7 PI8, 8 PC13, 9 PC14, 10 PC15, 11 PI9, 12 PI10, 13 PI11, 14 VSS, 15 VDD, 16 PF0, 17 PF1, 18 PF2, 19 PF3, 20 PF4, 21 PF5, 22 VSS, 23 VDD, 24 PF6, 25 PF7, 26 PF8, 27 PF9, 28 PF10, 29 PH0, 30 PH1, 31 NRST, 32 PC0, 33 PC1, 34 PC2, 35 PC3, 36 VDD, 37 VSSA, 38 VREF+, 39 VDDA, 40 PA0, 41 PA1, 42 PA2, 43 PH2, 44 PH3, 45 PH4, 46 PH5, 47 PA3, 48 VSS, 49 VDD, 50 PA4, 51 PA5, 52 PA6, 53 PA7, 54 PC4, 55 PC5, 56 PB0, 57 PB1, 58 PB2, 59 PF11, 60 PF12, 61 VSS, 62 VDD, 63 PF13, 64 PF14, 65 PF15, 66 PG0, 67 PG1, 68 PE7, 69 PE8, 70 PE9, 71 VSS, 72 VDD, 73 PE10, 74 PE11, 75 PE12, 76 PE13, 77 PE14, 78 PE15, 79 PB10, 80 PB11, 81 VCAP, 82 VSS, 83 VDD, 84 PH6, 85 PH7, 86 PH8, 87 PH9, 88 PH10, 89 PH11, 90 PH12, 91 VDD, 92 PB12, 93 PB13, 94 PB14, 95 PB15, 96 PD8, 97 PD9, 98 PD10, 99 PD11, 100 PD12, 101 PD13, 102 VSS, 103 VDD, 104 PD14, 105 PD15, 106 PG2, 107 PG3, 108 PG4, 109 PG5, 110 PG6, 111 PG7, 112 PG8, 113 VSS, 114 VDD, 115 PC6, 116 PC7, 117 PC8, 118 PC9, 119 PA8, 120 PA9, 121 PA10, 122 PA11, 123 PA12, 124 PA13(JTMS, 125 VDDUSB, 126 VSS, 127 VDD, 128 PH13, 129 PH14, 130 PH15, 131 PI0, 132 PI1, 133 PI2, 134 PI3, 135 VSS, 136 VDD, 137 PA14(JTCK, 138 PA15(JTDI), 139 PC10, 140 PC11, 141 PC12, 142 PD0, 143 PD1, 144 PD2, 145 PD3, 146 PD4, 147 PD5, 148 VSS, 149 VDDIO2, 150 PD6, 151 PD7, 152 PG9, 153 PG10, 154 PG11, 155 PG12, 156 PG13, 157 PG14, 158 VSS, 159 VDD, 160 PG15, 161 PB3(JTDO, 162 PB4(NJTRST), 163 PB5, 164 PB6, 165 PB7, 166 BOOT0, 167 PB8, 168 PB9, 169 PE0, 170 PE1, 171 VCAP, 172 VDD, 173 PI4, 174 PI5, 175 PI6, 176 PI7

## STM32H562IIKx
designator *  value STM32H562IIKx  Reference: U
STMicroelectronics Arm Cortex-M33 MCU, 2048KB flash, 640KB RAM, 250 MHz, 1.62-3.6V, 140 GPIO, UFBGA176; ki_keywords: Arm Cortex-M33 STM32H5 STM32H562; ki_fp_filters: UFBGA*10x10mm*Layout15x15*P0.65mm*; Footprint: Package_BGA:UFBGA-201_10x10mm_Layout15x15_P0.65mm; Datasheet: https://www.st.com/resource/en/datasheet/stm32h562ii.pdf; Description_: STMicroelectronics Arm Cortex-M33 MCU, 2048KB flash, 640KB RAM, 250 MHz, 1.62-3.6V, 140 GPIO, UFBGA176
pins: A1 PE3, A2 PE2, A3 PE1, A4 PE0, A5 PB8, A6 PB5, A7 PG14, A8 PG13, A9 PB4(NJTRST), A10 PB3(JTDO, A11 PD7, A12 PC12, A13 PA15(JTDI), A14 PA14(JTCK, A15 PA13(JTMS, B1 PE4, B2 PE5, B3 PE6, B4 PB9, B5 PB7, B6 PB6, B7 PG15, B8 PG12, B9 PG11, B10 PG10, B11 PD6, B12 PD0, B13 PC11, B14 PC10, B15 PA12, C1 VBAT, C2 PI7, C3 PI6, C4 PI5, C5 VDD, C6 VCAP, C7 VDD, C8 VDDIO2, C9 VDD, C10 PG9, C11 PD5, C12 PD1, C13 PI3, C14 PI2, C15 PA11, D1 PC13, D2 PI8, D3 PI9, D4 PI4, D5 VSS, D6 BOOT0, D7 VSS, D8 VSS, D9 VSS, D10 PD4, D11 PD3, D12 PD2, D13 PH15, D14 PI1, D15 PA10, E1 PC14, E2 PF0, E3 PI10, E4 PI11, E12 PH13, E13 PH14, E14 PI0, E15 PA9, F1 PC15, F2 VSS, F3 VDD, F4 PH2, F6 VSS, F7 VSS, F8 VSS, F9 VSS, F10 VSS, F12 VSS, F13 VDD, F14 PC9, F15 PA8, G1 PH0, G2 VSS, G3 VDD, G4 PH3, G6 VSS, G7 VSS, G8 VSS, G9 VSS, G10 VSS, G12 VSS, G13 VDD, G14 PC8, G15 PC7, H1 PH1, H2 PF2, H3 PF1, H4 PH4, H6 VSS, H7 VSS, H8 VSS, H9 VSS, H10 VSS, H12 VSS, H13 VDDUSB, H14 PG8, H15 PC6, J1 NRST, J2 PF3, J3 PF4, J4 PH5, J6 VSS, J7 VSS, J8 VSS, J9 VSS, J10 VSS, J12 VDD, J13 VDD, J14 PG7, J15 PG6, K1 PF7, K2 PF6, K3 PF5, K4 VDD, K6 VSS, K7 VSS, K8 VSS, K9 VSS, K10 VSS, K12 PH12, K13 PG5, K14 PG4, K15 PG3, L1 PF10, L2 PF9, L3 PF8, L4 VSS, L12 PH11, L13 PH10, L14 PD15, L15 PG2, M1 VSSA, M2 PC0, M3 PC1, M4 PC2, M5 PC3, M6 PB2, M7 PG1, M8 VSS, M9 VSS, M10 VCAP, M11 PH6, M12 PH8, M13 PH9, M14 PD14, M15 PD13, N1 VREF-, N2 PA1, N3 PA0, N4 PA4, N5 PC4, N6 PF13, N7 PG0, N8 VDD, N9 VDD, N10 VDD, N11 PE13, N12 PH7, N13 PD12, N14 PD11, N15 PD10, P1 VREF+, P2 PA2, P3 PA6, P4 PA5, P5 PC5, P6 PF12, P7 PF15, P8 PE8, P9 PE9, P10 PE11, P11 PE14, P12 PB12, P13 PB13, P14 PD9, P15 PD8, R1 VDDA, R2 PA3, R3 PA7, R4 PB1, R5 PB0, R6 PF11, R7 PF14, R8 PE7, R9 PE10, R10 PE12, R11 PE15, R12 PB10, R13 PB11, R14 PB14, R15 PB15

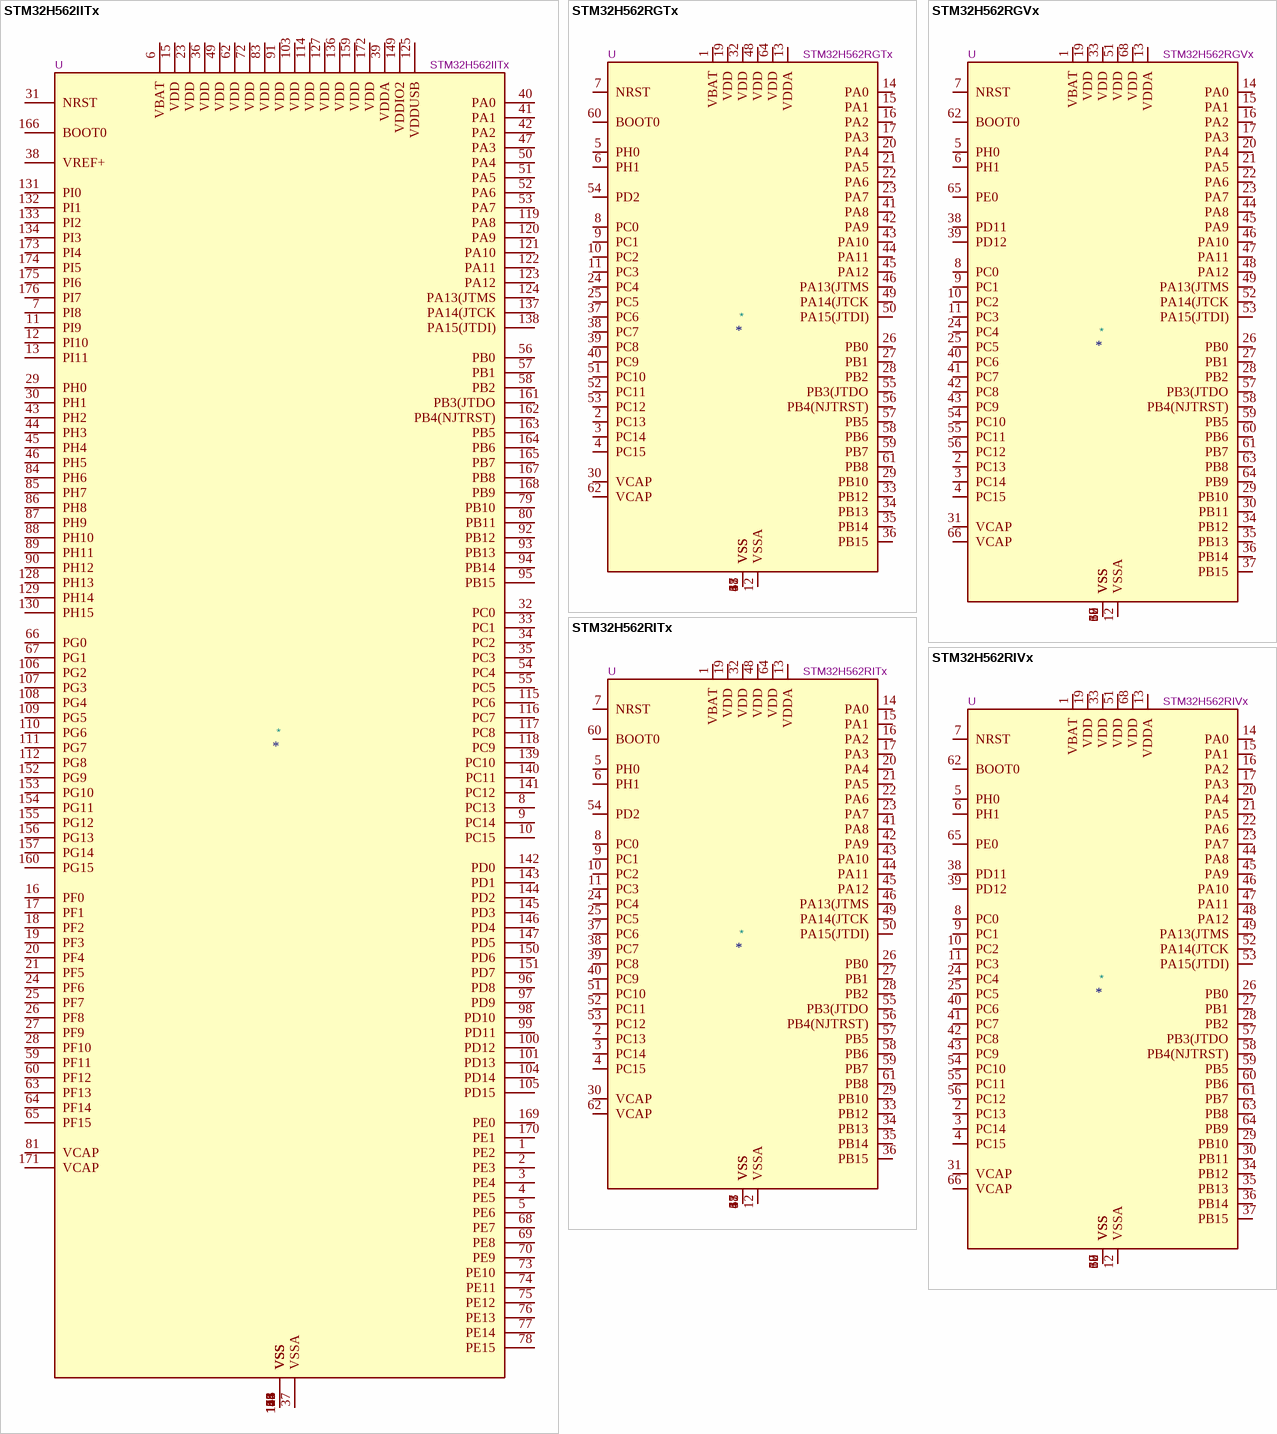
[diagram p8: symbols STM32H562IITx to STM32H562RIVx]

## STM32H562IITx
designator *  value STM32H562IITx  Reference: U
STMicroelectronics Arm Cortex-M33 MCU, 2048KB flash, 640KB RAM, 250 MHz, 1.62-3.6V, 140 GPIO, LQFP176; ki_keywords: Arm Cortex-M33 STM32H5 STM32H562; ki_fp_filters: LQFP*24x24mm*P0.5mm*; Footprint: Package_QFP:LQFP-176_24x24mm_P0.5mm; Datasheet: https://www.st.com/resource/en/datasheet/stm32h562ii.pdf; Description_: STMicroelectronics Arm Cortex-M33 MCU, 2048KB flash, 640KB RAM, 250 MHz, 1.62-3.6V, 140 GPIO, LQFP176
pins: 1 PE2, 2 PE3, 3 PE4, 4 PE5, 5 PE6, 6 VBAT, 7 PI8, 8 PC13, 9 PC14, 10 PC15, 11 PI9, 12 PI10, 13 PI11, 14 VSS, 15 VDD, 16 PF0, 17 PF1, 18 PF2, 19 PF3, 20 PF4, 21 PF5, 22 VSS, 23 VDD, 24 PF6, 25 PF7, 26 PF8, 27 PF9, 28 PF10, 29 PH0, 30 PH1, 31 NRST, 32 PC0, 33 PC1, 34 PC2, 35 PC3, 36 VDD, 37 VSSA, 38 VREF+, 39 VDDA, 40 PA0, 41 PA1, 42 PA2, 43 PH2, 44 PH3, 45 PH4, 46 PH5, 47 PA3, 48 VSS, 49 VDD, 50 PA4, 51 PA5, 52 PA6, 53 PA7, 54 PC4, 55 PC5, 56 PB0, 57 PB1, 58 PB2, 59 PF11, 60 PF12, 61 VSS, 62 VDD, 63 PF13, 64 PF14, 65 PF15, 66 PG0, 67 PG1, 68 PE7, 69 PE8, 70 PE9, 71 VSS, 72 VDD, 73 PE10, 74 PE11, 75 PE12, 76 PE13, 77 PE14, 78 PE15, 79 PB10, 80 PB11, 81 VCAP, 82 VSS, 83 VDD, 84 PH6, 85 PH7, 86 PH8, 87 PH9, 88 PH10, 89 PH11, 90 PH12, 91 VDD, 92 PB12, 93 PB13, 94 PB14, 95 PB15, 96 PD8, 97 PD9, 98 PD10, 99 PD11, 100 PD12, 101 PD13, 102 VSS, 103 VDD, 104 PD14, 105 PD15, 106 PG2, 107 PG3, 108 PG4, 109 PG5, 110 PG6, 111 PG7, 112 PG8, 113 VSS, 114 VDD, 115 PC6, 116 PC7, 117 PC8, 118 PC9, 119 PA8, 120 PA9, 121 PA10, 122 PA11, 123 PA12, 124 PA13(JTMS, 125 VDDUSB, 126 VSS, 127 VDD, 128 PH13, 129 PH14, 130 PH15, 131 PI0, 132 PI1, 133 PI2, 134 PI3, 135 VSS, 136 VDD, 137 PA14(JTCK, 138 PA15(JTDI), 139 PC10, 140 PC11, 141 PC12, 142 PD0, 143 PD1, 144 PD2, 145 PD3, 146 PD4, 147 PD5, 148 VSS, 149 VDDIO2, 150 PD6, 151 PD7, 152 PG9, 153 PG10, 154 PG11, 155 PG12, 156 PG13, 157 PG14, 158 VSS, 159 VDD, 160 PG15, 161 PB3(JTDO, 162 PB4(NJTRST), 163 PB5, 164 PB6, 165 PB7, 166 BOOT0, 167 PB8, 168 PB9, 169 PE0, 170 PE1, 171 VCAP, 172 VDD, 173 PI4, 174 PI5, 175 PI6, 176 PI7

## STM32H562RGTx
designator *  value STM32H562RGTx  Reference: U
STMicroelectronics Arm Cortex-M33 MCU, 1024KB flash, 640KB RAM, 49 GPIO, LQFP64; ki_keywords: Arm Cortex-M33 STM32H5 STM32H5x2; ki_fp_filters: LQFP*10x10mm*P0.5mm*; Footprint: Package_QFP:LQFP-64_10x10mm_P0.5mm; Datasheet: https://www.st.com/resource/en/datasheet/stm32h562rg.pdf; Description_: STMicroelectronics Arm Cortex-M33 MCU, 1024KB flash, 640KB RAM, 49 GPIO, LQFP64
pins: 1 VBAT, 2 PC13, 3 PC14, 4 PC15, 5 PH0, 6 PH1, 7 NRST, 8 PC0, 9 PC1, 10 PC2, 11 PC3, 12 VSSA, 13 VDDA, 14 PA0, 15 PA1, 16 PA2, 17 PA3, 18 VSS, 19 VDD, 20 PA4, 21 PA5, 22 PA6, 23 PA7, 24 PC4, 25 PC5, 26 PB0, 27 PB1, 28 PB2, 29 PB10, 30 VCAP, 31 VSS, 32 VDD, 33 PB12, 34 PB13, 35 PB14, 36 PB15, 37 PC6, 38 PC7, 39 PC8, 40 PC9, 41 PA8, 42 PA9, 43 PA10, 44 PA11, 45 PA12, 46 PA13(JTMS, 47 VSS, 48 VDD, 49 PA14(JTCK, 50 PA15(JTDI), 51 PC10, 52 PC11, 53 PC12, 54 PD2, 55 PB3(JTDO, 56 PB4(NJTRST), 57 PB5, 58 PB6, 59 PB7, 60 BOOT0, 61 PB8, 62 VCAP, 63 VSS, 64 VDD

## STM32H562RGVx
designator *  value STM32H562RGVx  Reference: U
STMicroelectronics Arm Cortex-M33 MCU, 1024KB flash, 640KB RAM, 53 GPIO, VFQFPN68; ki_keywords: Arm Cortex-M33 STM32H5 STM32H5x2; ki_fp_filters: QFN*1EP*8x8mm*P0.4mm*; Footprint: Package_DFN_QFN:QFN-68-1EP_8x8mm_P0.4mm_EP6.4x6.4mm; Datasheet: https://www.st.com/resource/en/datasheet/stm32h562rg.pdf; Description_: STMicroelectronics Arm Cortex-M33 MCU, 1024KB flash, 640KB RAM, 53 GPIO, VFQFPN68
pins: 1 VBAT, 2 PC13, 3 PC14, 4 PC15, 5 PH0, 6 PH1, 7 NRST, 8 PC0, 9 PC1, 10 PC2, 11 PC3, 12 VSSA, 13 VDDA, 14 PA0, 15 PA1, 16 PA2, 17 PA3, 18 VSS, 19 VDD, 20 PA4, 21 PA5, 22 PA6, 23 PA7, 24 PC4, 25 PC5, 26 PB0, 27 PB1, 28 PB2, 29 PB10, 30 PB11, 31 VCAP, 32 VSS, 33 VDD, 34 PB12, 35 PB13, 36 PB14, 37 PB15, 38 PD11, 39 PD12, 40 PC6, 41 PC7, 42 PC8, 43 PC9, 44 PA8, 45 PA9, 46 PA10, 47 PA11, 48 PA12, 49 PA13(JTMS, 50 VSS, 51 VDD, 52 PA14(JTCK, 53 PA15(JTDI), 54 PC10, 55 PC11, 56 PC12, 57 PB3(JTDO, 58 PB4(NJTRST), 59 PB5, 60 PB6, 61 PB7, 62 BOOT0, 63 PB8, 64 PB9, 65 PE0, 66 VCAP, 67 VSS, 68 VDD, 69 VSS

## STM32H562RITx
designator *  value STM32H562RITx  Reference: U
STMicroelectronics Arm Cortex-M33 MCU, 2048KB flash, 640KB RAM, 250 MHz, 1.62-3.6V, 49 GPIO, LQFP64; ki_keywords: Arm Cortex-M33 STM32H5 STM32H562; ki_fp_filters: LQFP*10x10mm*P0.5mm*; Footprint: Package_QFP:LQFP-64_10x10mm_P0.5mm; Datasheet: https://www.st.com/resource/en/datasheet/stm32h562ri.pdf; Description_: STMicroelectronics Arm Cortex-M33 MCU, 2048KB flash, 640KB RAM, 250 MHz, 1.62-3.6V, 49 GPIO, LQFP64
pins: 1 VBAT, 2 PC13, 3 PC14, 4 PC15, 5 PH0, 6 PH1, 7 NRST, 8 PC0, 9 PC1, 10 PC2, 11 PC3, 12 VSSA, 13 VDDA, 14 PA0, 15 PA1, 16 PA2, 17 PA3, 18 VSS, 19 VDD, 20 PA4, 21 PA5, 22 PA6, 23 PA7, 24 PC4, 25 PC5, 26 PB0, 27 PB1, 28 PB2, 29 PB10, 30 VCAP, 31 VSS, 32 VDD, 33 PB12, 34 PB13, 35 PB14, 36 PB15, 37 PC6, 38 PC7, 39 PC8, 40 PC9, 41 PA8, 42 PA9, 43 PA10, 44 PA11, 45 PA12, 46 PA13(JTMS, 47 VSS, 48 VDD, 49 PA14(JTCK, 50 PA15(JTDI), 51 PC10, 52 PC11, 53 PC12, 54 PD2, 55 PB3(JTDO, 56 PB4(NJTRST), 57 PB5, 58 PB6, 59 PB7, 60 BOOT0, 61 PB8, 62 VCAP, 63 VSS, 64 VDD

## STM32H562RIVx
designator *  value STM32H562RIVx  Reference: U
STMicroelectronics Arm Cortex-M33 MCU, 2048KB flash, 640KB RAM, 250 MHz, 1.62-3.6V, 53 GPIO, VFQFPN68; ki_keywords: Arm Cortex-M33 STM32H5 STM32H562; ki_fp_filters: QFN*1EP*8x8mm*P0.4mm*; Footprint: Package_DFN_QFN:QFN-68-1EP_8x8mm_P0.4mm_EP6.4x6.4mm; Datasheet: https://www.st.com/resource/en/datasheet/stm32h562ri.pdf; Description_: STMicroelectronics Arm Cortex-M33 MCU, 2048KB flash, 640KB RAM, 250 MHz, 1.62-3.6V, 53 GPIO, VFQFPN68
pins: 1 VBAT, 2 PC13, 3 PC14, 4 PC15, 5 PH0, 6 PH1, 7 NRST, 8 PC0, 9 PC1, 10 PC2, 11 PC3, 12 VSSA, 13 VDDA, 14 PA0, 15 PA1, 16 PA2, 17 PA3, 18 VSS, 19 VDD, 20 PA4, 21 PA5, 22 PA6, 23 PA7, 24 PC4, 25 PC5, 26 PB0, 27 PB1, 28 PB2, 29 PB10, 30 PB11, 31 VCAP, 32 VSS, 33 VDD, 34 PB12, 35 PB13, 36 PB14, 37 PB15, 38 PD11, 39 PD12, 40 PC6, 41 PC7, 42 PC8, 43 PC9, 44 PA8, 45 PA9, 46 PA10, 47 PA11, 48 PA12, 49 PA13(JTMS, 50 VSS, 51 VDD, 52 PA14(JTCK, 53 PA15(JTDI), 54 PC10, 55 PC11, 56 PC12, 57 PB3(JTDO, 58 PB4(NJTRST), 59 PB5, 60 PB6, 61 PB7, 62 BOOT0, 63 PB8, 64 PB9, 65 PE0, 66 VCAP, 67 VSS, 68 VDD, 69 VSS

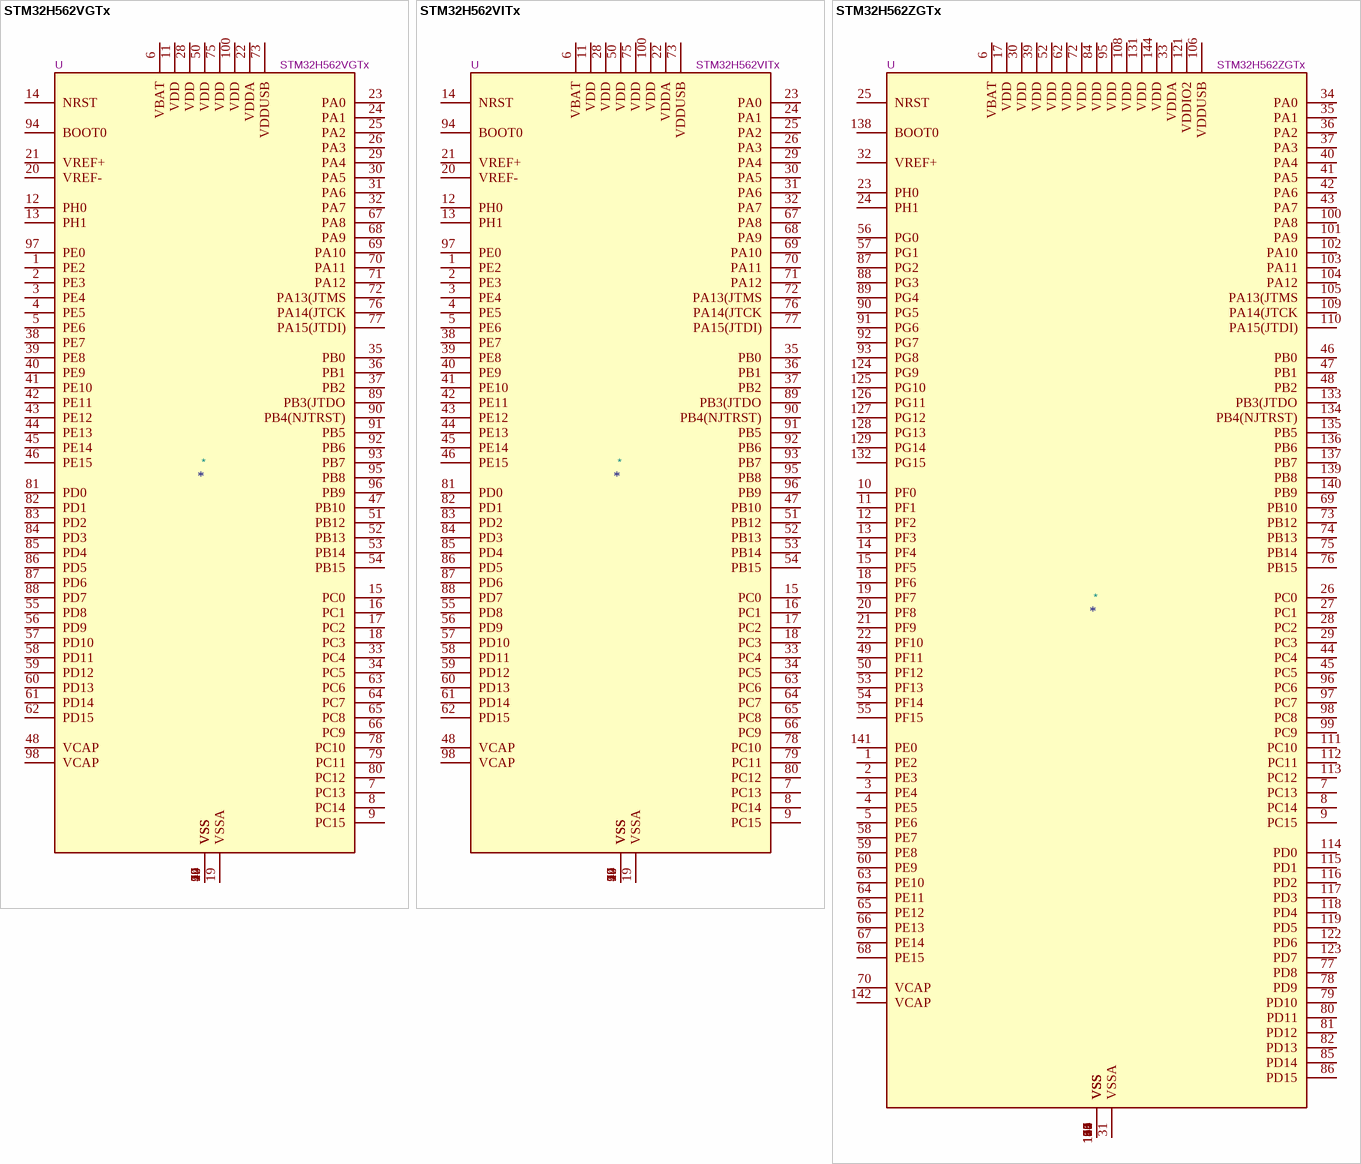
[diagram p9: symbols STM32H562VGTx to STM32H562ZGTx]